# Altium integrated library Microchip DSC 16-Bit dsPIC33F.IntLib: 595 symbols (part 6 of 31)
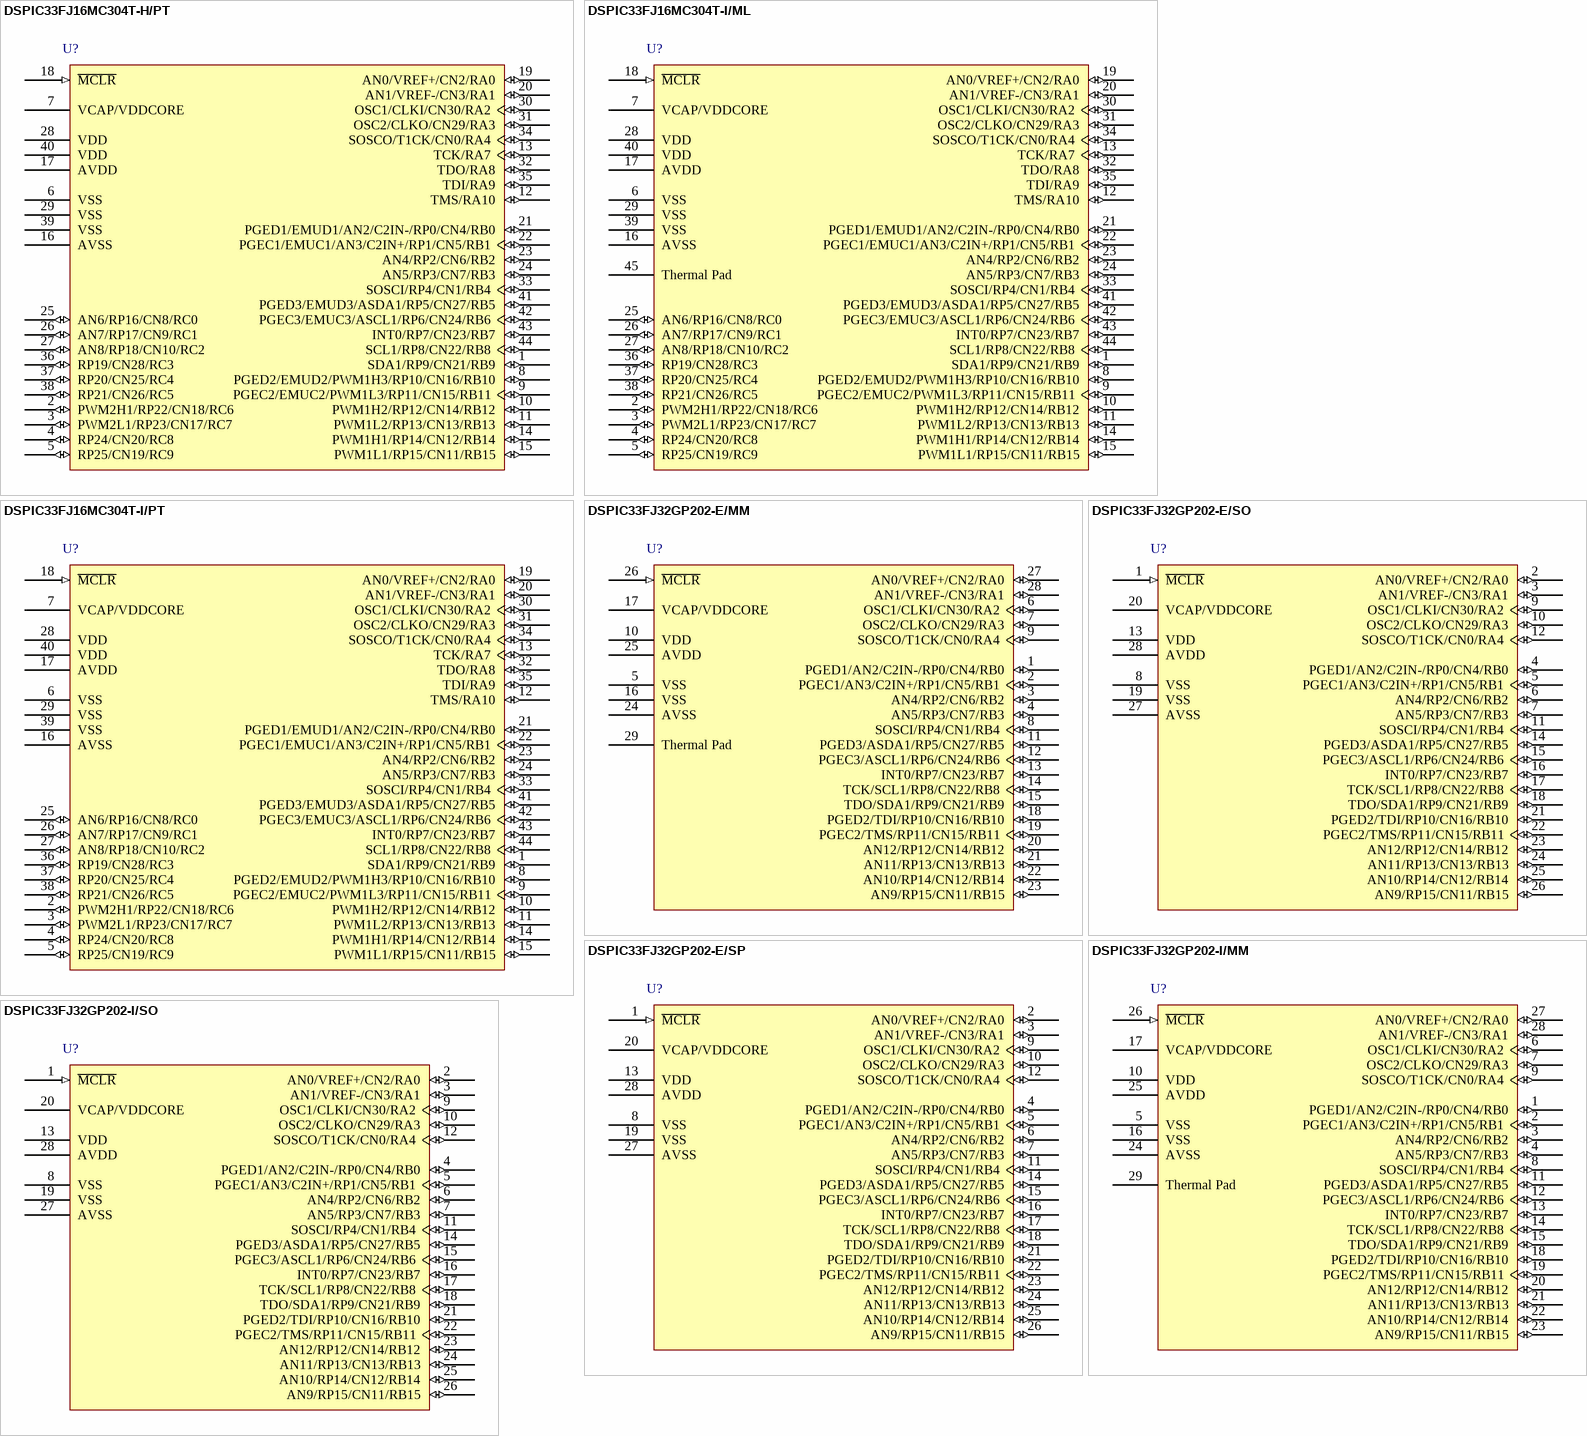
[diagram p123: symbols DSPIC33FJ16MC304T-H/PT to DSPIC33FJ32GP202-I/SO]

## DSPIC33FJ16MC304T-I/PT
designator U?
High-Performance 16-bit Digital Signal Controller, 16 KB Flash, 2 KB RAM, 44-Pin TQFP, Industrial Temperature, Tape and Reel; FirstPublished: 29-Jan-2009; LatestRevisionDate: 02-Dec-2009; LatestRevisionNote: Updated to datasheet revision F, Nov-2009; DatasheetVersion: revF, Nov-2009; PackageVersion: revBB, Aug-2009; PackageReference: TQFP-PT44; Publisher: Altium Limited; PackageDescription: 44-Lead Plastic Thin Quad Flatpack (PT) - 10x10x1mm Body, 2.00mm [TQFP]; Supplier 1: Digi-Key; Supplier Part Number 1: DSPIC33FJ16MC304T-I/PTTR-ND; Supplier 2: Newark; Supplier Part Number 2: 39M8160; Code_JEDEC: MS-026; ComponentLink1Description: Datasheet; ComponentLink1URL: http://ww1.microchip.com/downloads/en/DeviceDoc/70283F.pdf; ComponentLink2Description: Packaging Specification; ComponentLink2URL: http://www.microchip.com/stellent/groups/techpub_sg/documents/packagingspec/en012702.pdf; ComponentLink3Description: Microchip.com Home; ComponentLink3URL: http://www.microchip.com/
footprint TQFP-PT44_N (Thin QFP, 44-Leads, Body 10x10mm, Pitch 0.8mm, IPC Medium Density)
footprint TQFP-PT44_L (Thin QFP, 44-Leads, Body 10x10mm, Pitch 0.8mm, IPC High Density)
footprint TQFP-PT44_M (Thin QFP, 44-Leads, Body 10x10mm, Pitch 0.8mm, IPC Low Density)
pins: 1 SDA1/RP9/CN21/RB9 (io), 2 PWM2H1/RP22/CN18/RC6 (io), 3 PWM2L1/RP23/CN17/RC7 (io), 4 RP24/CN20/RC8 (io), 5 RP25/CN19/RC9 (io), 6 VSS (power), 7 VCAP/VDDCORE (power), 8 PGED2/EMUD2/PWM1H3/RP10/CN16/RB10 (io), 9 PGEC2/EMUC2/PWM1L3/RP11/CN15/RB11 (io), 10 PWM1H2/RP12/CN14/RB12 (io), 11 PWM1L2/RP13/CN13/RB13 (io), 12 TMS/RA10 (io), 13 TCK/RA7 (io), 14 PWM1H1/RP14/CN12/RB14 (io), 15 PWM1L1/RP15/CN11/RB15 (io), 16 AVSS (power), 17 AVDD (power), 18 ~{MCLR} (in), 19 AN0/VREF+/CN2/RA0 (io), 20 AN1/VREF-/CN3/RA1 (io), 21 PGED1/EMUD1/AN2/C2IN-/RP0/CN4/RB0 (io), 22 PGEC1/EMUC1/AN3/C2IN+/RP1/CN5/RB1 (io), 23 AN4/RP2/CN6/RB2 (io), 24 AN5/RP3/CN7/RB3 (io), 25 AN6/RP16/CN8/RC0 (io), 26 AN7/RP17/CN9/RC1 (io), 27 AN8/RP18/CN10/RC2 (io), 28 VDD (power), 29 VSS (power), 30 OSC1/CLKI/CN30/RA2 (io), 31 OSC2/CLKO/CN29/RA3 (io), 32 TDO/RA8 (io), 33 SOSCI/RP4/CN1/RB4 (io), 34 SOSCO/T1CK/CN0/RA4 (io), 35 TDI/RA9 (io), 36 RP19/CN28/RC3 (io), 37 RP20/CN25/RC4 (io), 38 RP21/CN26/RC5 (io), 39 VSS (power), 40 VDD (power), 41 PGED3/EMUD3/ASDA1/RP5/CN27/RB5 (io), 42 PGEC3/EMUC3/ASCL1/RP6/CN24/RB6 (io), 43 INT0/RP7/CN23/RB7 (io), 44 SCL1/RP8/CN22/RB8 (io)

## DSPIC33FJ32GP202-E/MM
designator U?
High-Performance 16-bit Digital Signal Controller, 32 KB Flash, 2 KB RAM, 28-Pin QFN, Extended High Temperature; FirstPublished: 29-Jan-2009; LatestRevisionDate: 02-Dec-2009; LatestRevisionNote: Updated to datasheet revision F, Nov-2009; DatasheetVersion: revF, Nov-2009; PackageVersion: revBB, Aug-2009; PackageReference: QFNS-MM28; Publisher: Altium Limited; PackageDescription: 28-Lead Plastic Quad Flat, No Lead Package (MM) - 6x6x0.9 mm Body [QFN-S] with 0.40 mm Contact Length; Supplier 1: Digi-Key; Supplier Part Number 1: DSPIC33FJ32GP202-E/MM-ND; Supplier 2: Newark; Supplier Part Number 2: 39M8161; ComponentLink1Description: Datasheet; ComponentLink1URL: http://ww1.microchip.com/downloads/en/DeviceDoc/70290F.pdf; ComponentLink2Description: Packaging Specification; ComponentLink2URL: http://www.microchip.com/stellent/groups/techpub_sg/documents/packagingspec/en012702.pdf; ComponentLink3Description: Microchip.com Home; ComponentLink3URL: http://www.microchip.com/
footprint QFNS-MM28_N (QFN, 28-Leads, Body 6x6 mm, Pitch 0.65mm, IPC Medium Density)
footprint QFNS-MM28_L (QFN, 28-Leads, Body 6x6 mm, Pitch 0.65mm, IPC High Density)
footprint QFNS-MM28_M (QFN, 28-Leads, Body 6x6 mm, Pitch 0.65mm, IPC Low Density)
pins: 1 PGED1/AN2/C2IN-/RP0/CN4/RB0 (io), 2 PGEC1/AN3/C2IN+/RP1/CN5/RB1 (io), 3 AN4/RP2/CN6/RB2 (io), 4 AN5/RP3/CN7/RB3 (io), 5 VSS (power), 6 OSC1/CLKI/CN30/RA2 (io), 7 OSC2/CLKO/CN29/RA3 (io), 8 SOSCI/RP4/CN1/RB4 (io), 9 SOSCO/T1CK/CN0/RA4 (io), 10 VDD (power), 11 PGED3/ASDA1/RP5/CN27/RB5 (io), 12 PGEC3/ASCL1/RP6/CN24/RB6 (io), 13 INT0/RP7/CN23/RB7 (io), 14 TCK/SCL1/RP8/CN22/RB8 (io), 15 TDO/SDA1/RP9/CN21/RB9 (io), 16 VSS (power), 17 VCAP/VDDCORE (power), 18 PGED2/TDI/RP10/CN16/RB10 (io), 19 PGEC2/TMS/RP11/CN15/RB11 (io), 20 AN12/RP12/CN14/RB12 (io), 21 AN11/RP13/CN13/RB13 (io), 22 AN10/RP14/CN12/RB14 (io), 23 AN9/RP15/CN11/RB15 (io), 24 AVSS (power), 25 AVDD (power), 26 ~{MCLR} (in), 27 AN0/VREF+/CN2/RA0 (io), 28 AN1/VREF-/CN3/RA1 (io), 29 Thermal Pad

## DSPIC33FJ32GP202-E/SO
designator U?
High-Performance 16-bit Digital Signal Controller, 32 KB Flash, 2 KB RAM, 28-Pin SOIC, Extended High Temperature; FirstPublished: 29-Jan-2009; LatestRevisionDate: 02-Dec-2009; LatestRevisionNote: Updated to datasheet revision F, Nov-2009; DatasheetVersion: revF, Nov-2009; PackageVersion: revBB, Aug-2009; PackageReference: SOIC-SO28; Publisher: Altium Limited; PackageDescription: 28-Lead Plastic Small Outline (SO) - Wide 7.50mm Body [SOIC]; Supplier 1: Digi-Key; Supplier Part Number 1: DSPIC33FJ32GP202-E/SO-ND; Supplier 2: Newark; Supplier Part Number 2: 39M8162; Code_JEDEC: MS-013; ComponentLink1Description: Datasheet; ComponentLink1URL: http://ww1.microchip.com/downloads/en/DeviceDoc/70290F.pdf; ComponentLink2Description: Packaging Specification; ComponentLink2URL: http://www.microchip.com/stellent/groups/techpub_sg/documents/packagingspec/en012702.pdf; ComponentLink3Description: Microchip.com Home; ComponentLink3URL: http://www.microchip.com/
footprint SOIC-SO28_N (SOIC, 28-Leads, Body 17.9x7.5mm, Pitch 1.27mm, IPC Medium Density)
footprint SOIC-SO28_L (SOIC, 28-Leads, Body 17.9x7.5mm, Pitch 1.27mm, IPC High Density)
footprint SOIC-SO28_M (SOIC, 28-Leads, Body 17.9x7.5mm, Pitch 1.27mm, IPC Low Density)
pins: 1 ~{MCLR} (in), 2 AN0/VREF+/CN2/RA0 (io), 3 AN1/VREF-/CN3/RA1 (io), 4 PGED1/AN2/C2IN-/RP0/CN4/RB0 (io), 5 PGEC1/AN3/C2IN+/RP1/CN5/RB1 (io), 6 AN4/RP2/CN6/RB2 (io), 7 AN5/RP3/CN7/RB3 (io), 8 VSS (power), 9 OSC1/CLKI/CN30/RA2 (io), 10 OSC2/CLKO/CN29/RA3 (io), 11 SOSCI/RP4/CN1/RB4 (io), 12 SOSCO/T1CK/CN0/RA4 (io), 13 VDD (power), 14 PGED3/ASDA1/RP5/CN27/RB5 (io), 15 PGEC3/ASCL1/RP6/CN24/RB6 (io), 16 INT0/RP7/CN23/RB7 (io), 17 TCK/SCL1/RP8/CN22/RB8 (io), 18 TDO/SDA1/RP9/CN21/RB9 (io), 19 VSS (power), 20 VCAP/VDDCORE (power), 21 PGED2/TDI/RP10/CN16/RB10 (io), 22 PGEC2/TMS/RP11/CN15/RB11 (io), 23 AN12/RP12/CN14/RB12 (io), 24 AN11/RP13/CN13/RB13 (io), 25 AN10/RP14/CN12/RB14 (io), 26 AN9/RP15/CN11/RB15 (io), 27 AVSS (power), 28 AVDD (power)

## DSPIC33FJ32GP202-E/SP
designator U?
High-Performance 16-bit Digital Signal Controller, 32 KB Flash, 2 KB RAM, 28-Pin SPDIP, Extended High Temperature; FirstPublished: 29-Jan-2009; LatestRevisionDate: 02-Dec-2009; LatestRevisionNote: Updated to datasheet revision F, Nov-2009; DatasheetVersion: revF, Nov-2009; PackageVersion: revBB, Aug-2009; PackageReference: SPDIP300-SP28; Publisher: Altium Limited; PackageDescription: 28-Lead Skinny Plastic Dual In-Line (SP) - 300 mil Body [SPDIP]; Supplier 1: Digi-Key; Supplier Part Number 1: DSPIC33FJ32GP202-E/SP-ND; Supplier 2: Newark; Supplier Part Number 2: 39M8163; ComponentLink1Description: Datasheet; ComponentLink1URL: http://ww1.microchip.com/downloads/en/DeviceDoc/70290F.pdf; ComponentLink2Description: Packaging Specification; ComponentLink2URL: http://www.microchip.com/stellent/groups/techpub_sg/documents/packagingspec/en012702.pdf; ComponentLink3Description: Microchip.com Home; ComponentLink3URL: http://www.microchip.com/
footprint SPDIP300-SP28 (DIP, 28-Leads, Row Spacing 7.62mm, Pitch 2.54mm, Body 34.9x6.8mm)
pins: 1 ~{MCLR} (in), 2 AN0/VREF+/CN2/RA0 (io), 3 AN1/VREF-/CN3/RA1 (io), 4 PGED1/AN2/C2IN-/RP0/CN4/RB0 (io), 5 PGEC1/AN3/C2IN+/RP1/CN5/RB1 (io), 6 AN4/RP2/CN6/RB2 (io), 7 AN5/RP3/CN7/RB3 (io), 8 VSS (power), 9 OSC1/CLKI/CN30/RA2 (io), 10 OSC2/CLKO/CN29/RA3 (io), 11 SOSCI/RP4/CN1/RB4 (io), 12 SOSCO/T1CK/CN0/RA4 (io), 13 VDD (power), 14 PGED3/ASDA1/RP5/CN27/RB5 (io), 15 PGEC3/ASCL1/RP6/CN24/RB6 (io), 16 INT0/RP7/CN23/RB7 (io), 17 TCK/SCL1/RP8/CN22/RB8 (io), 18 TDO/SDA1/RP9/CN21/RB9 (io), 19 VSS (power), 20 VCAP/VDDCORE (power), 21 PGED2/TDI/RP10/CN16/RB10 (io), 22 PGEC2/TMS/RP11/CN15/RB11 (io), 23 AN12/RP12/CN14/RB12 (io), 24 AN11/RP13/CN13/RB13 (io), 25 AN10/RP14/CN12/RB14 (io), 26 AN9/RP15/CN11/RB15 (io), 27 AVSS (power), 28 AVDD (power)

## DSPIC33FJ32GP202-I/MM
designator U?
High-Performance 16-bit Digital Signal Controller, 32 KB Flash, 2 KB RAM, 28-Pin QFN, Industrial Temperature; FirstPublished: 29-Jan-2009; LatestRevisionDate: 02-Dec-2009; LatestRevisionNote: Updated to datasheet revision F, Nov-2009; DatasheetVersion: revF, Nov-2009; PackageVersion: revBB, Aug-2009; PackageReference: QFNS-MM28; Publisher: Altium Limited; PackageDescription: 28-Lead Plastic Quad Flat, No Lead Package (MM) - 6x6x0.9 mm Body [QFN-S] with 0.40 mm Contact Length; Supplier 1: Digi-Key; Supplier Part Number 1: DSPIC33FJ32GP202-I/MM-ND; Supplier 2: Farnell; Supplier Part Number 2: 1576911; Supplier 3: Newark; Supplier Part Number 3: 39M8164; ComponentLink1Description: Datasheet; ComponentLink1URL: http://ww1.microchip.com/downloads/en/DeviceDoc/70290F.pdf; ComponentLink2Description: Packaging Specification; ComponentLink2URL: http://www.microchip.com/stellent/groups/techpub_sg/documents/packagingspec/en012702.pdf; ComponentLink3Description: Microchip.com Home; ComponentLink3URL: http://www.microchip.com/
footprint QFNS-MM28_N (QFN, 28-Leads, Body 6x6 mm, Pitch 0.65mm, IPC Medium Density)
footprint QFNS-MM28_L (QFN, 28-Leads, Body 6x6 mm, Pitch 0.65mm, IPC High Density)
footprint QFNS-MM28_M (QFN, 28-Leads, Body 6x6 mm, Pitch 0.65mm, IPC Low Density)
pins: 1 PGED1/AN2/C2IN-/RP0/CN4/RB0 (io), 2 PGEC1/AN3/C2IN+/RP1/CN5/RB1 (io), 3 AN4/RP2/CN6/RB2 (io), 4 AN5/RP3/CN7/RB3 (io), 5 VSS (power), 6 OSC1/CLKI/CN30/RA2 (io), 7 OSC2/CLKO/CN29/RA3 (io), 8 SOSCI/RP4/CN1/RB4 (io), 9 SOSCO/T1CK/CN0/RA4 (io), 10 VDD (power), 11 PGED3/ASDA1/RP5/CN27/RB5 (io), 12 PGEC3/ASCL1/RP6/CN24/RB6 (io), 13 INT0/RP7/CN23/RB7 (io), 14 TCK/SCL1/RP8/CN22/RB8 (io), 15 TDO/SDA1/RP9/CN21/RB9 (io), 16 VSS (power), 17 VCAP/VDDCORE (power), 18 PGED2/TDI/RP10/CN16/RB10 (io), 19 PGEC2/TMS/RP11/CN15/RB11 (io), 20 AN12/RP12/CN14/RB12 (io), 21 AN11/RP13/CN13/RB13 (io), 22 AN10/RP14/CN12/RB14 (io), 23 AN9/RP15/CN11/RB15 (io), 24 AVSS (power), 25 AVDD (power), 26 ~{MCLR} (in), 27 AN0/VREF+/CN2/RA0 (io), 28 AN1/VREF-/CN3/RA1 (io), 29 Thermal Pad

## DSPIC33FJ32GP202-I/SO
designator U?
High-Performance 16-bit Digital Signal Controller, 32 KB Flash, 2 KB RAM, 28-Pin SOIC, Industrial Temperature; FirstPublished: 29-Jan-2009; LatestRevisionDate: 02-Dec-2009; LatestRevisionNote: Updated to datasheet revision F, Nov-2009; DatasheetVersion: revF, Nov-2009; PackageVersion: revBB, Aug-2009; PackageReference: SOIC-SO28; Publisher: Altium Limited; PackageDescription: 28-Lead Plastic Small Outline (SO) - Wide 7.50mm Body [SOIC]; Supplier 1: Digi-Key; Supplier Part Number 1: DSPIC33FJ32GP202-I/SO-ND; Supplier 2: Farnell; Supplier Part Number 2: 1576912; Supplier 3: Newark; Supplier Part Number 3: 39M8165; Code_JEDEC: MS-013; ComponentLink1Description: Datasheet; ComponentLink1URL: http://ww1.microchip.com/downloads/en/DeviceDoc/70290F.pdf; ComponentLink2Description: Packaging Specification; ComponentLink2URL: http://www.microchip.com/stellent/groups/techpub_sg/documents/packagingspec/en012702.pdf; ComponentLink3Description: Microchip.com Home; ComponentLink3URL: http://www.microchip.com/
footprint SOIC-SO28_N (SOIC, 28-Leads, Body 17.9x7.5mm, Pitch 1.27mm, IPC Medium Density)
footprint SOIC-SO28_L (SOIC, 28-Leads, Body 17.9x7.5mm, Pitch 1.27mm, IPC High Density)
footprint SOIC-SO28_M (SOIC, 28-Leads, Body 17.9x7.5mm, Pitch 1.27mm, IPC Low Density)
pins: 1 ~{MCLR} (in), 2 AN0/VREF+/CN2/RA0 (io), 3 AN1/VREF-/CN3/RA1 (io), 4 PGED1/AN2/C2IN-/RP0/CN4/RB0 (io), 5 PGEC1/AN3/C2IN+/RP1/CN5/RB1 (io), 6 AN4/RP2/CN6/RB2 (io), 7 AN5/RP3/CN7/RB3 (io), 8 VSS (power), 9 OSC1/CLKI/CN30/RA2 (io), 10 OSC2/CLKO/CN29/RA3 (io), 11 SOSCI/RP4/CN1/RB4 (io), 12 SOSCO/T1CK/CN0/RA4 (io), 13 VDD (power), 14 PGED3/ASDA1/RP5/CN27/RB5 (io), 15 PGEC3/ASCL1/RP6/CN24/RB6 (io), 16 INT0/RP7/CN23/RB7 (io), 17 TCK/SCL1/RP8/CN22/RB8 (io), 18 TDO/SDA1/RP9/CN21/RB9 (io), 19 VSS (power), 20 VCAP/VDDCORE (power), 21 PGED2/TDI/RP10/CN16/RB10 (io), 22 PGEC2/TMS/RP11/CN15/RB11 (io), 23 AN12/RP12/CN14/RB12 (io), 24 AN11/RP13/CN13/RB13 (io), 25 AN10/RP14/CN12/RB14 (io), 26 AN9/RP15/CN11/RB15 (io), 27 AVSS (power), 28 AVDD (power)

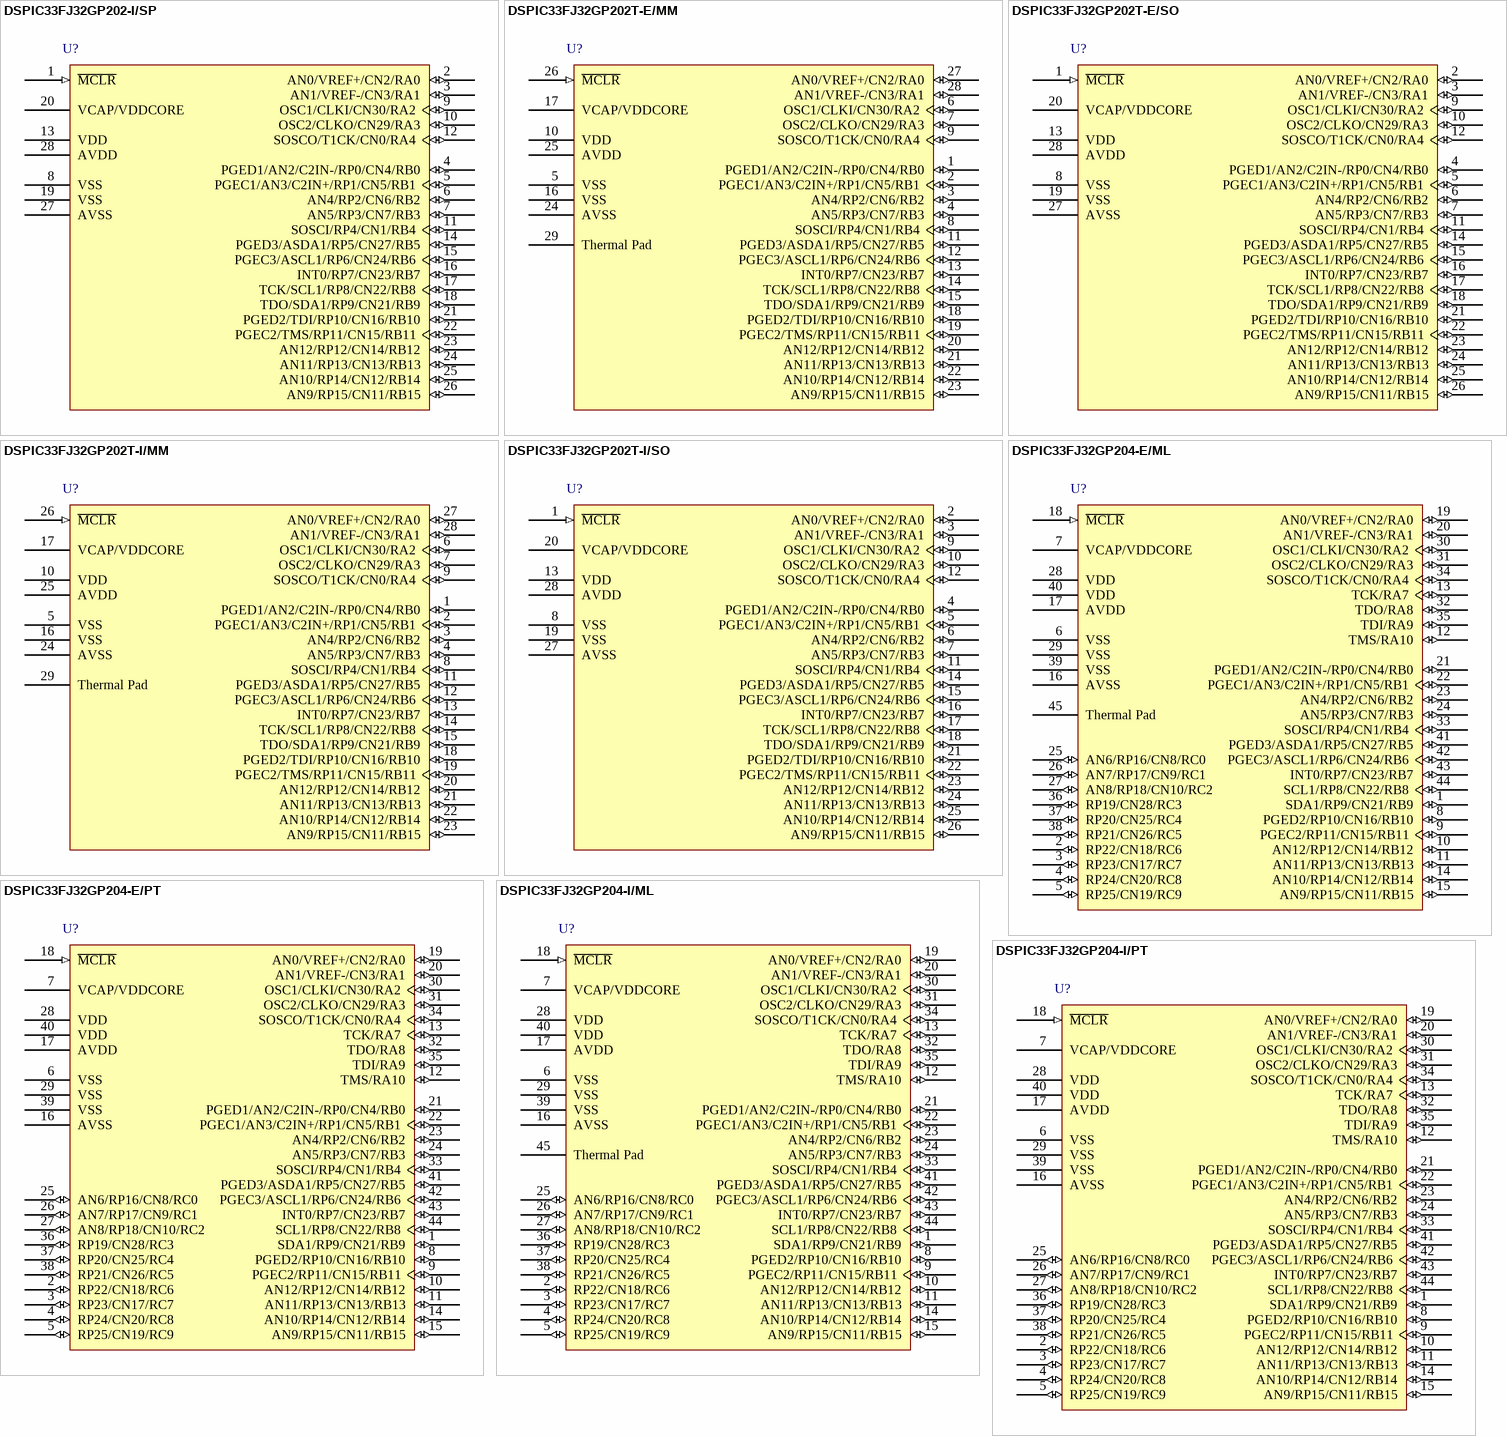
[diagram p15: symbols DSPIC33FJ32GP202-I/SP to DSPIC33FJ32GP204-I/PT]

## DSPIC33FJ32GP202-I/SP
designator U?
High-Performance 16-bit Digital Signal Controller, 32 KB Flash, 2 KB RAM, 28-Pin SPDIP, Industrial Temperature; FirstPublished: 29-Jan-2009; LatestRevisionDate: 02-Dec-2009; LatestRevisionNote: Updated to datasheet revision F, Nov-2009; DatasheetVersion: revF, Nov-2009; PackageVersion: revBB, Aug-2009; PackageReference: SPDIP300-SP28; Publisher: Altium Limited; PackageDescription: 28-Lead Skinny Plastic Dual In-Line (SP) - 300 mil Body [SPDIP]; Supplier 1: Digi-Key; Supplier Part Number 1: DSPIC33FJ32GP202-I/SP-ND; Supplier 2: Farnell; Supplier Part Number 2: 1576913; Supplier 3: Newark; Supplier Part Number 3: 39M8166; ComponentLink1Description: Datasheet; ComponentLink1URL: http://ww1.microchip.com/downloads/en/DeviceDoc/70290F.pdf; ComponentLink2Description: Packaging Specification; ComponentLink2URL: http://www.microchip.com/stellent/groups/techpub_sg/documents/packagingspec/en012702.pdf; ComponentLink3Description: Microchip.com Home; ComponentLink3URL: http://www.microchip.com/
footprint SPDIP300-SP28 (DIP, 28-Leads, Row Spacing 7.62mm, Pitch 2.54mm, Body 34.9x6.8mm)
pins: 1 ~{MCLR} (in), 2 AN0/VREF+/CN2/RA0 (io), 3 AN1/VREF-/CN3/RA1 (io), 4 PGED1/AN2/C2IN-/RP0/CN4/RB0 (io), 5 PGEC1/AN3/C2IN+/RP1/CN5/RB1 (io), 6 AN4/RP2/CN6/RB2 (io), 7 AN5/RP3/CN7/RB3 (io), 8 VSS (power), 9 OSC1/CLKI/CN30/RA2 (io), 10 OSC2/CLKO/CN29/RA3 (io), 11 SOSCI/RP4/CN1/RB4 (io), 12 SOSCO/T1CK/CN0/RA4 (io), 13 VDD (power), 14 PGED3/ASDA1/RP5/CN27/RB5 (io), 15 PGEC3/ASCL1/RP6/CN24/RB6 (io), 16 INT0/RP7/CN23/RB7 (io), 17 TCK/SCL1/RP8/CN22/RB8 (io), 18 TDO/SDA1/RP9/CN21/RB9 (io), 19 VSS (power), 20 VCAP/VDDCORE (power), 21 PGED2/TDI/RP10/CN16/RB10 (io), 22 PGEC2/TMS/RP11/CN15/RB11 (io), 23 AN12/RP12/CN14/RB12 (io), 24 AN11/RP13/CN13/RB13 (io), 25 AN10/RP14/CN12/RB14 (io), 26 AN9/RP15/CN11/RB15 (io), 27 AVSS (power), 28 AVDD (power)

## DSPIC33FJ32GP202T-E/MM
designator U?
High-Performance 16-bit Digital Signal Controller, 32 KB Flash, 2 KB RAM, 28-Pin QFN, Extended High Temperature, Tape and Reel; FirstPublished: 29-Jan-2009; LatestRevisionDate: 02-Dec-2009; LatestRevisionNote: Updated to datasheet revision F, Nov-2009; DatasheetVersion: revF, Nov-2009; PackageVersion: revBB, Aug-2009; PackageReference: QFNS-MM28; Publisher: Altium Limited; PackageDescription: 28-Lead Plastic Quad Flat, No Lead Package (MM) - 6x6x0.9 mm Body [QFN-S] with 0.40 mm Contact Length; ComponentLink1Description: Datasheet; ComponentLink1URL: http://ww1.microchip.com/downloads/en/DeviceDoc/70290F.pdf; ComponentLink2Description: Packaging Specification; ComponentLink2URL: http://www.microchip.com/stellent/groups/techpub_sg/documents/packagingspec/en012702.pdf; ComponentLink3Description: Microchip.com Home; ComponentLink3URL: http://www.microchip.com/
footprint QFNS-MM28_N (QFN, 28-Leads, Body 6x6 mm, Pitch 0.65mm, IPC Medium Density)
footprint QFNS-MM28_L (QFN, 28-Leads, Body 6x6 mm, Pitch 0.65mm, IPC High Density)
footprint QFNS-MM28_M (QFN, 28-Leads, Body 6x6 mm, Pitch 0.65mm, IPC Low Density)
pins: 1 PGED1/AN2/C2IN-/RP0/CN4/RB0 (io), 2 PGEC1/AN3/C2IN+/RP1/CN5/RB1 (io), 3 AN4/RP2/CN6/RB2 (io), 4 AN5/RP3/CN7/RB3 (io), 5 VSS (power), 6 OSC1/CLKI/CN30/RA2 (io), 7 OSC2/CLKO/CN29/RA3 (io), 8 SOSCI/RP4/CN1/RB4 (io), 9 SOSCO/T1CK/CN0/RA4 (io), 10 VDD (power), 11 PGED3/ASDA1/RP5/CN27/RB5 (io), 12 PGEC3/ASCL1/RP6/CN24/RB6 (io), 13 INT0/RP7/CN23/RB7 (io), 14 TCK/SCL1/RP8/CN22/RB8 (io), 15 TDO/SDA1/RP9/CN21/RB9 (io), 16 VSS (power), 17 VCAP/VDDCORE (power), 18 PGED2/TDI/RP10/CN16/RB10 (io), 19 PGEC2/TMS/RP11/CN15/RB11 (io), 20 AN12/RP12/CN14/RB12 (io), 21 AN11/RP13/CN13/RB13 (io), 22 AN10/RP14/CN12/RB14 (io), 23 AN9/RP15/CN11/RB15 (io), 24 AVSS (power), 25 AVDD (power), 26 ~{MCLR} (in), 27 AN0/VREF+/CN2/RA0 (io), 28 AN1/VREF-/CN3/RA1 (io), 29 Thermal Pad

## DSPIC33FJ32GP202T-E/SO
designator U?
High-Performance 16-bit Digital Signal Controller, 32 KB Flash, 2 KB RAM, 28-Pin SOIC, Extended High Temperature, Tape and Reel; FirstPublished: 29-Jan-2009; LatestRevisionDate: 02-Dec-2009; LatestRevisionNote: Updated to datasheet revision F, Nov-2009; DatasheetVersion: revF, Nov-2009; PackageVersion: revBB, Aug-2009; PackageReference: SOIC-SO28; Publisher: Altium Limited; PackageDescription: 28-Lead Plastic Small Outline (SO) - Wide 7.50mm Body [SOIC]; Code_JEDEC: MS-013; ComponentLink1Description: Datasheet; ComponentLink1URL: http://ww1.microchip.com/downloads/en/DeviceDoc/70290F.pdf; ComponentLink2Description: Packaging Specification; ComponentLink2URL: http://www.microchip.com/stellent/groups/techpub_sg/documents/packagingspec/en012702.pdf; ComponentLink3Description: Microchip.com Home; ComponentLink3URL: http://www.microchip.com/
footprint SOIC-SO28_N (SOIC, 28-Leads, Body 17.9x7.5mm, Pitch 1.27mm, IPC Medium Density)
footprint SOIC-SO28_L (SOIC, 28-Leads, Body 17.9x7.5mm, Pitch 1.27mm, IPC High Density)
footprint SOIC-SO28_M (SOIC, 28-Leads, Body 17.9x7.5mm, Pitch 1.27mm, IPC Low Density)
pins: 1 ~{MCLR} (in), 2 AN0/VREF+/CN2/RA0 (io), 3 AN1/VREF-/CN3/RA1 (io), 4 PGED1/AN2/C2IN-/RP0/CN4/RB0 (io), 5 PGEC1/AN3/C2IN+/RP1/CN5/RB1 (io), 6 AN4/RP2/CN6/RB2 (io), 7 AN5/RP3/CN7/RB3 (io), 8 VSS (power), 9 OSC1/CLKI/CN30/RA2 (io), 10 OSC2/CLKO/CN29/RA3 (io), 11 SOSCI/RP4/CN1/RB4 (io), 12 SOSCO/T1CK/CN0/RA4 (io), 13 VDD (power), 14 PGED3/ASDA1/RP5/CN27/RB5 (io), 15 PGEC3/ASCL1/RP6/CN24/RB6 (io), 16 INT0/RP7/CN23/RB7 (io), 17 TCK/SCL1/RP8/CN22/RB8 (io), 18 TDO/SDA1/RP9/CN21/RB9 (io), 19 VSS (power), 20 VCAP/VDDCORE (power), 21 PGED2/TDI/RP10/CN16/RB10 (io), 22 PGEC2/TMS/RP11/CN15/RB11 (io), 23 AN12/RP12/CN14/RB12 (io), 24 AN11/RP13/CN13/RB13 (io), 25 AN10/RP14/CN12/RB14 (io), 26 AN9/RP15/CN11/RB15 (io), 27 AVSS (power), 28 AVDD (power)

## DSPIC33FJ32GP202T-I/MM
designator U?
High-Performance 16-bit Digital Signal Controller, 32 KB Flash, 2 KB RAM, 28-Pin QFN, Industrial Temperature, Tape and Reel; FirstPublished: 29-Jan-2009; LatestRevisionDate: 02-Dec-2009; LatestRevisionNote: Updated to datasheet revision F, Nov-2009; DatasheetVersion: revF, Nov-2009; PackageVersion: revBB, Aug-2009; PackageReference: QFNS-MM28; Publisher: Altium Limited; PackageDescription: 28-Lead Plastic Quad Flat, No Lead Package (MM) - 6x6x0.9 mm Body [QFN-S] with 0.40 mm Contact Length; Supplier 1: Digi-Key; Supplier Part Number 1: DSPIC33FJ32GP202T-I/MMTR-ND; Supplier 2: Newark; Supplier Part Number 2: 39M8167; ComponentLink1Description: Datasheet; ComponentLink1URL: http://ww1.microchip.com/downloads/en/DeviceDoc/70290F.pdf; ComponentLink2Description: Packaging Specification; ComponentLink2URL: http://www.microchip.com/stellent/groups/techpub_sg/documents/packagingspec/en012702.pdf; ComponentLink3Description: Microchip.com Home; ComponentLink3URL: http://www.microchip.com/
footprint QFNS-MM28_N (QFN, 28-Leads, Body 6x6 mm, Pitch 0.65mm, IPC Medium Density)
footprint QFNS-MM28_L (QFN, 28-Leads, Body 6x6 mm, Pitch 0.65mm, IPC High Density)
footprint QFNS-MM28_M (QFN, 28-Leads, Body 6x6 mm, Pitch 0.65mm, IPC Low Density)
pins: 1 PGED1/AN2/C2IN-/RP0/CN4/RB0 (io), 2 PGEC1/AN3/C2IN+/RP1/CN5/RB1 (io), 3 AN4/RP2/CN6/RB2 (io), 4 AN5/RP3/CN7/RB3 (io), 5 VSS (power), 6 OSC1/CLKI/CN30/RA2 (io), 7 OSC2/CLKO/CN29/RA3 (io), 8 SOSCI/RP4/CN1/RB4 (io), 9 SOSCO/T1CK/CN0/RA4 (io), 10 VDD (power), 11 PGED3/ASDA1/RP5/CN27/RB5 (io), 12 PGEC3/ASCL1/RP6/CN24/RB6 (io), 13 INT0/RP7/CN23/RB7 (io), 14 TCK/SCL1/RP8/CN22/RB8 (io), 15 TDO/SDA1/RP9/CN21/RB9 (io), 16 VSS (power), 17 VCAP/VDDCORE (power), 18 PGED2/TDI/RP10/CN16/RB10 (io), 19 PGEC2/TMS/RP11/CN15/RB11 (io), 20 AN12/RP12/CN14/RB12 (io), 21 AN11/RP13/CN13/RB13 (io), 22 AN10/RP14/CN12/RB14 (io), 23 AN9/RP15/CN11/RB15 (io), 24 AVSS (power), 25 AVDD (power), 26 ~{MCLR} (in), 27 AN0/VREF+/CN2/RA0 (io), 28 AN1/VREF-/CN3/RA1 (io), 29 Thermal Pad

## DSPIC33FJ32GP202T-I/SO
designator U?
High-Performance 16-bit Digital Signal Controller, 32 KB Flash, 2 KB RAM, 28-Pin SOIC, Industrial Temperature, Tape and Reel; FirstPublished: 29-Jan-2009; LatestRevisionDate: 02-Dec-2009; LatestRevisionNote: Updated to datasheet revision F, Nov-2009; DatasheetVersion: revF, Nov-2009; PackageVersion: revBB, Aug-2009; PackageReference: SOIC-SO28; Publisher: Altium Limited; PackageDescription: 28-Lead Plastic Small Outline (SO) - Wide 7.50mm Body [SOIC]; Supplier 1: Digi-Key; Supplier Part Number 1: DSPIC33FJ32GP202T-I/SOTR-ND; Supplier 2: Newark; Supplier Part Number 2: 39M8168; Code_JEDEC: MS-013; ComponentLink1Description: Datasheet; ComponentLink1URL: http://ww1.microchip.com/downloads/en/DeviceDoc/70290F.pdf; ComponentLink2Description: Packaging Specification; ComponentLink2URL: http://www.microchip.com/stellent/groups/techpub_sg/documents/packagingspec/en012702.pdf; ComponentLink3Description: Microchip.com Home; ComponentLink3URL: http://www.microchip.com/
footprint SOIC-SO28_N (SOIC, 28-Leads, Body 17.9x7.5mm, Pitch 1.27mm, IPC Medium Density)
footprint SOIC-SO28_L (SOIC, 28-Leads, Body 17.9x7.5mm, Pitch 1.27mm, IPC High Density)
footprint SOIC-SO28_M (SOIC, 28-Leads, Body 17.9x7.5mm, Pitch 1.27mm, IPC Low Density)
pins: 1 ~{MCLR} (in), 2 AN0/VREF+/CN2/RA0 (io), 3 AN1/VREF-/CN3/RA1 (io), 4 PGED1/AN2/C2IN-/RP0/CN4/RB0 (io), 5 PGEC1/AN3/C2IN+/RP1/CN5/RB1 (io), 6 AN4/RP2/CN6/RB2 (io), 7 AN5/RP3/CN7/RB3 (io), 8 VSS (power), 9 OSC1/CLKI/CN30/RA2 (io), 10 OSC2/CLKO/CN29/RA3 (io), 11 SOSCI/RP4/CN1/RB4 (io), 12 SOSCO/T1CK/CN0/RA4 (io), 13 VDD (power), 14 PGED3/ASDA1/RP5/CN27/RB5 (io), 15 PGEC3/ASCL1/RP6/CN24/RB6 (io), 16 INT0/RP7/CN23/RB7 (io), 17 TCK/SCL1/RP8/CN22/RB8 (io), 18 TDO/SDA1/RP9/CN21/RB9 (io), 19 VSS (power), 20 VCAP/VDDCORE (power), 21 PGED2/TDI/RP10/CN16/RB10 (io), 22 PGEC2/TMS/RP11/CN15/RB11 (io), 23 AN12/RP12/CN14/RB12 (io), 24 AN11/RP13/CN13/RB13 (io), 25 AN10/RP14/CN12/RB14 (io), 26 AN9/RP15/CN11/RB15 (io), 27 AVSS (power), 28 AVDD (power)

## DSPIC33FJ32GP204-E/ML
designator U?
High-Performance 16-bit Digital Signal Controller, 32 KB Flash, 2 KB RAM, 44-Pin QFN, Extended High Temperature; FirstPublished: 29-Jan-2009; LatestRevisionDate: 02-Dec-2009; LatestRevisionNote: Updated to datasheet revision F, Nov-2009; DatasheetVersion: revF, Nov-2009; PackageVersion: revBB, Aug-2009; PackageReference: QFN-ML44; Publisher: Altium Limited; PackageDescription: 44-Lead Plastic Quad Flat, No Lead Package (ML) - 8x8 mm Body [QFN]; Supplier 1: Digi-Key; Supplier Part Number 1: DSPIC33FJ32GP204-E/ML-ND; Supplier 2: Newark; Supplier Part Number 2: 39M8169; Code_JEDEC: MO-220; Code_IPC: QFN65P800X800-44V2; ComponentLink1Description: Datasheet; ComponentLink1URL: http://ww1.microchip.com/downloads/en/DeviceDoc/70290F.pdf; ComponentLink2Description: Packaging Specification; ComponentLink2URL: http://www.microchip.com/stellent/groups/techpub_sg/documents/packagingspec/en012702.pdf; ComponentLink3Description: Microchip.com Home; ComponentLink3URL: http://www.microchip.com/
footprint QFN-ML44_N (QFN, 44-Leads, Body 8x8 mm, Pitch 0.65mm, IPC Medium Density)
footprint QFN-ML44_L (QFN, 44-Leads, Body 8x8 mm, Pitch 0.65mm, IPC High Density)
footprint QFN-ML44_M (QFN, 44-Leads, Body 8x8 mm, Pitch 0.65mm, IPC Low Density)
pins: 1 SDA1/RP9/CN21/RB9 (io), 2 RP22/CN18/RC6 (io), 3 RP23/CN17/RC7 (io), 4 RP24/CN20/RC8 (io), 5 RP25/CN19/RC9 (io), 6 VSS (power), 7 VCAP/VDDCORE (power), 8 PGED2/RP10/CN16/RB10 (io), 9 PGEC2/RP11/CN15/RB11 (io), 10 AN12/RP12/CN14/RB12 (io), 11 AN11/RP13/CN13/RB13 (io), 12 TMS/RA10 (io), 13 TCK/RA7 (io), 14 AN10/RP14/CN12/RB14 (io), 15 AN9/RP15/CN11/RB15 (io), 16 AVSS (power), 17 AVDD (power), 18 ~{MCLR} (in), 19 AN0/VREF+/CN2/RA0 (io), 20 AN1/VREF-/CN3/RA1 (io), 21 PGED1/AN2/C2IN-/RP0/CN4/RB0 (io), 22 PGEC1/AN3/C2IN+/RP1/CN5/RB1 (io), 23 AN4/RP2/CN6/RB2 (io), 24 AN5/RP3/CN7/RB3 (io), 25 AN6/RP16/CN8/RC0 (io), 26 AN7/RP17/CN9/RC1 (io), 27 AN8/RP18/CN10/RC2 (io), 28 VDD (power), 29 VSS (power), 30 OSC1/CLKI/CN30/RA2 (io), 31 OSC2/CLKO/CN29/RA3 (io), 32 TDO/RA8 (io), 33 SOSCI/RP4/CN1/RB4 (io), 34 SOSCO/T1CK/CN0/RA4 (io), 35 TDI/RA9 (io), 36 RP19/CN28/RC3 (io), 37 RP20/CN25/RC4 (io), 38 RP21/CN26/RC5 (io), 39 VSS (power), 40 VDD (power), 41 PGED3/ASDA1/RP5/CN27/RB5 (io), 42 PGEC3/ASCL1/RP6/CN24/RB6 (io), 43 INT0/RP7/CN23/RB7 (io), 44 SCL1/RP8/CN22/RB8 (io), 45 Thermal Pad

## DSPIC33FJ32GP204-E/PT
designator U?
High-Performance 16-bit Digital Signal Controller, 32 KB Flash, 2 KB RAM, 44-Pin TQFP, Extended High Temperature; FirstPublished: 29-Jan-2009; LatestRevisionDate: 02-Dec-2009; LatestRevisionNote: Updated to datasheet revision F, Nov-2009; DatasheetVersion: revF, Nov-2009; PackageVersion: revBB, Aug-2009; PackageReference: TQFP-PT44; Publisher: Altium Limited; PackageDescription: 44-Lead Plastic Thin Quad Flatpack (PT) - 10x10x1mm Body, 2.00mm [TQFP]; Supplier 1: Digi-Key; Supplier Part Number 1: DSPIC33FJ32GP204-E/PT-ND; Supplier 2: Newark; Supplier Part Number 2: 39M8170; Code_JEDEC: MS-026; ComponentLink1Description: Datasheet; ComponentLink1URL: http://ww1.microchip.com/downloads/en/DeviceDoc/70290F.pdf; ComponentLink2Description: Packaging Specification; ComponentLink2URL: http://www.microchip.com/stellent/groups/techpub_sg/documents/packagingspec/en012702.pdf; ComponentLink3Description: Microchip.com Home; ComponentLink3URL: http://www.microchip.com/
footprint TQFP-PT44_N (Thin QFP, 44-Leads, Body 10x10mm, Pitch 0.8mm, IPC Medium Density)
footprint TQFP-PT44_L (Thin QFP, 44-Leads, Body 10x10mm, Pitch 0.8mm, IPC High Density)
footprint TQFP-PT44_M (Thin QFP, 44-Leads, Body 10x10mm, Pitch 0.8mm, IPC Low Density)
pins: 1 SDA1/RP9/CN21/RB9 (io), 2 RP22/CN18/RC6 (io), 3 RP23/CN17/RC7 (io), 4 RP24/CN20/RC8 (io), 5 RP25/CN19/RC9 (io), 6 VSS (power), 7 VCAP/VDDCORE (power), 8 PGED2/RP10/CN16/RB10 (io), 9 PGEC2/RP11/CN15/RB11 (io), 10 AN12/RP12/CN14/RB12 (io), 11 AN11/RP13/CN13/RB13 (io), 12 TMS/RA10 (io), 13 TCK/RA7 (io), 14 AN10/RP14/CN12/RB14 (io), 15 AN9/RP15/CN11/RB15 (io), 16 AVSS (power), 17 AVDD (power), 18 ~{MCLR} (in), 19 AN0/VREF+/CN2/RA0 (io), 20 AN1/VREF-/CN3/RA1 (io), 21 PGED1/AN2/C2IN-/RP0/CN4/RB0 (io), 22 PGEC1/AN3/C2IN+/RP1/CN5/RB1 (io), 23 AN4/RP2/CN6/RB2 (io), 24 AN5/RP3/CN7/RB3 (io), 25 AN6/RP16/CN8/RC0 (io), 26 AN7/RP17/CN9/RC1 (io), 27 AN8/RP18/CN10/RC2 (io), 28 VDD (power), 29 VSS (power), 30 OSC1/CLKI/CN30/RA2 (io), 31 OSC2/CLKO/CN29/RA3 (io), 32 TDO/RA8 (io), 33 SOSCI/RP4/CN1/RB4 (io), 34 SOSCO/T1CK/CN0/RA4 (io), 35 TDI/RA9 (io), 36 RP19/CN28/RC3 (io), 37 RP20/CN25/RC4 (io), 38 RP21/CN26/RC5 (io), 39 VSS (power), 40 VDD (power), 41 PGED3/ASDA1/RP5/CN27/RB5 (io), 42 PGEC3/ASCL1/RP6/CN24/RB6 (io), 43 INT0/RP7/CN23/RB7 (io), 44 SCL1/RP8/CN22/RB8 (io)

## DSPIC33FJ32GP204-I/ML
designator U?
High-Performance 16-bit Digital Signal Controller, 32 KB Flash, 2 KB RAM, 44-Pin QFN, Industrial Temperature; FirstPublished: 29-Jan-2009; LatestRevisionDate: 02-Dec-2009; LatestRevisionNote: Updated to datasheet revision F, Nov-2009; DatasheetVersion: revF, Nov-2009; PackageVersion: revBB, Aug-2009; PackageReference: QFN-ML44; Publisher: Altium Limited; PackageDescription: 44-Lead Plastic Quad Flat, No Lead Package (ML) - 8x8 mm Body [QFN]; Supplier 1: Digi-Key; Supplier Part Number 1: DSPIC33FJ32GP204-I/ML-ND; Supplier 2: Farnell; Supplier Part Number 2: 1576915; Supplier 3: Newark; Supplier Part Number 3: 39M8171; Code_JEDEC: MO-220; Code_IPC: QFN65P800X800-44V2; ComponentLink1Description: Datasheet; ComponentLink1URL: http://ww1.microchip.com/downloads/en/DeviceDoc/70290F.pdf; ComponentLink2Description: Packaging Specification; ComponentLink2URL: http://www.microchip.com/stellent/groups/techpub_sg/documents/packagingspec/en012702.pdf; ComponentLink3Description: Microchip.com Home; ComponentLink3URL: http://www.microchip.com/
footprint QFN-ML44_N (QFN, 44-Leads, Body 8x8 mm, Pitch 0.65mm, IPC Medium Density)
footprint QFN-ML44_L (QFN, 44-Leads, Body 8x8 mm, Pitch 0.65mm, IPC High Density)
footprint QFN-ML44_M (QFN, 44-Leads, Body 8x8 mm, Pitch 0.65mm, IPC Low Density)
pins: 1 SDA1/RP9/CN21/RB9 (io), 2 RP22/CN18/RC6 (io), 3 RP23/CN17/RC7 (io), 4 RP24/CN20/RC8 (io), 5 RP25/CN19/RC9 (io), 6 VSS (power), 7 VCAP/VDDCORE (power), 8 PGED2/RP10/CN16/RB10 (io), 9 PGEC2/RP11/CN15/RB11 (io), 10 AN12/RP12/CN14/RB12 (io), 11 AN11/RP13/CN13/RB13 (io), 12 TMS/RA10 (io), 13 TCK/RA7 (io), 14 AN10/RP14/CN12/RB14 (io), 15 AN9/RP15/CN11/RB15 (io), 16 AVSS (power), 17 AVDD (power), 18 ~{MCLR} (in), 19 AN0/VREF+/CN2/RA0 (io), 20 AN1/VREF-/CN3/RA1 (io), 21 PGED1/AN2/C2IN-/RP0/CN4/RB0 (io), 22 PGEC1/AN3/C2IN+/RP1/CN5/RB1 (io), 23 AN4/RP2/CN6/RB2 (io), 24 AN5/RP3/CN7/RB3 (io), 25 AN6/RP16/CN8/RC0 (io), 26 AN7/RP17/CN9/RC1 (io), 27 AN8/RP18/CN10/RC2 (io), 28 VDD (power), 29 VSS (power), 30 OSC1/CLKI/CN30/RA2 (io), 31 OSC2/CLKO/CN29/RA3 (io), 32 TDO/RA8 (io), 33 SOSCI/RP4/CN1/RB4 (io), 34 SOSCO/T1CK/CN0/RA4 (io), 35 TDI/RA9 (io), 36 RP19/CN28/RC3 (io), 37 RP20/CN25/RC4 (io), 38 RP21/CN26/RC5 (io), 39 VSS (power), 40 VDD (power), 41 PGED3/ASDA1/RP5/CN27/RB5 (io), 42 PGEC3/ASCL1/RP6/CN24/RB6 (io), 43 INT0/RP7/CN23/RB7 (io), 44 SCL1/RP8/CN22/RB8 (io), 45 Thermal Pad

## DSPIC33FJ32GP204-I/PT
designator U?
High-Performance 16-bit Digital Signal Controller, 32 KB Flash, 2 KB RAM, 44-Pin TQFP, Industrial Temperature; FirstPublished: 29-Jan-2009; LatestRevisionDate: 02-Dec-2009; LatestRevisionNote: Updated to datasheet revision F, Nov-2009; DatasheetVersion: revF, Nov-2009; PackageVersion: revBB, Aug-2009; PackageReference: TQFP-PT44; Publisher: Altium Limited; PackageDescription: 44-Lead Plastic Thin Quad Flatpack (PT) - 10x10x1mm Body, 2.00mm [TQFP]; Supplier 1: Digi-Key; Supplier Part Number 1: DSPIC33FJ32GP204-I/PT-ND; Supplier 2: Farnell; Supplier Part Number 2: 1576916; Supplier 3: Newark; Supplier Part Number 3: 39M8172; Code_JEDEC: MS-026; ComponentLink1Description: Datasheet; ComponentLink1URL: http://ww1.microchip.com/downloads/en/DeviceDoc/70290F.pdf; ComponentLink2Description: Packaging Specification; ComponentLink2URL: http://www.microchip.com/stellent/groups/techpub_sg/documents/packagingspec/en012702.pdf; ComponentLink3Description: Microchip.com Home; ComponentLink3URL: http://www.microchip.com/
footprint TQFP-PT44_N (Thin QFP, 44-Leads, Body 10x10mm, Pitch 0.8mm, IPC Medium Density)
footprint TQFP-PT44_L (Thin QFP, 44-Leads, Body 10x10mm, Pitch 0.8mm, IPC High Density)
footprint TQFP-PT44_M (Thin QFP, 44-Leads, Body 10x10mm, Pitch 0.8mm, IPC Low Density)
pins: 1 SDA1/RP9/CN21/RB9 (io), 2 RP22/CN18/RC6 (io), 3 RP23/CN17/RC7 (io), 4 RP24/CN20/RC8 (io), 5 RP25/CN19/RC9 (io), 6 VSS (power), 7 VCAP/VDDCORE (power), 8 PGED2/RP10/CN16/RB10 (io), 9 PGEC2/RP11/CN15/RB11 (io), 10 AN12/RP12/CN14/RB12 (io), 11 AN11/RP13/CN13/RB13 (io), 12 TMS/RA10 (io), 13 TCK/RA7 (io), 14 AN10/RP14/CN12/RB14 (io), 15 AN9/RP15/CN11/RB15 (io), 16 AVSS (power), 17 AVDD (power), 18 ~{MCLR} (in), 19 AN0/VREF+/CN2/RA0 (io), 20 AN1/VREF-/CN3/RA1 (io), 21 PGED1/AN2/C2IN-/RP0/CN4/RB0 (io), 22 PGEC1/AN3/C2IN+/RP1/CN5/RB1 (io), 23 AN4/RP2/CN6/RB2 (io), 24 AN5/RP3/CN7/RB3 (io), 25 AN6/RP16/CN8/RC0 (io), 26 AN7/RP17/CN9/RC1 (io), 27 AN8/RP18/CN10/RC2 (io), 28 VDD (power), 29 VSS (power), 30 OSC1/CLKI/CN30/RA2 (io), 31 OSC2/CLKO/CN29/RA3 (io), 32 TDO/RA8 (io), 33 SOSCI/RP4/CN1/RB4 (io), 34 SOSCO/T1CK/CN0/RA4 (io), 35 TDI/RA9 (io), 36 RP19/CN28/RC3 (io), 37 RP20/CN25/RC4 (io), 38 RP21/CN26/RC5 (io), 39 VSS (power), 40 VDD (power), 41 PGED3/ASDA1/RP5/CN27/RB5 (io), 42 PGEC3/ASCL1/RP6/CN24/RB6 (io), 43 INT0/RP7/CN23/RB7 (io), 44 SCL1/RP8/CN22/RB8 (io)

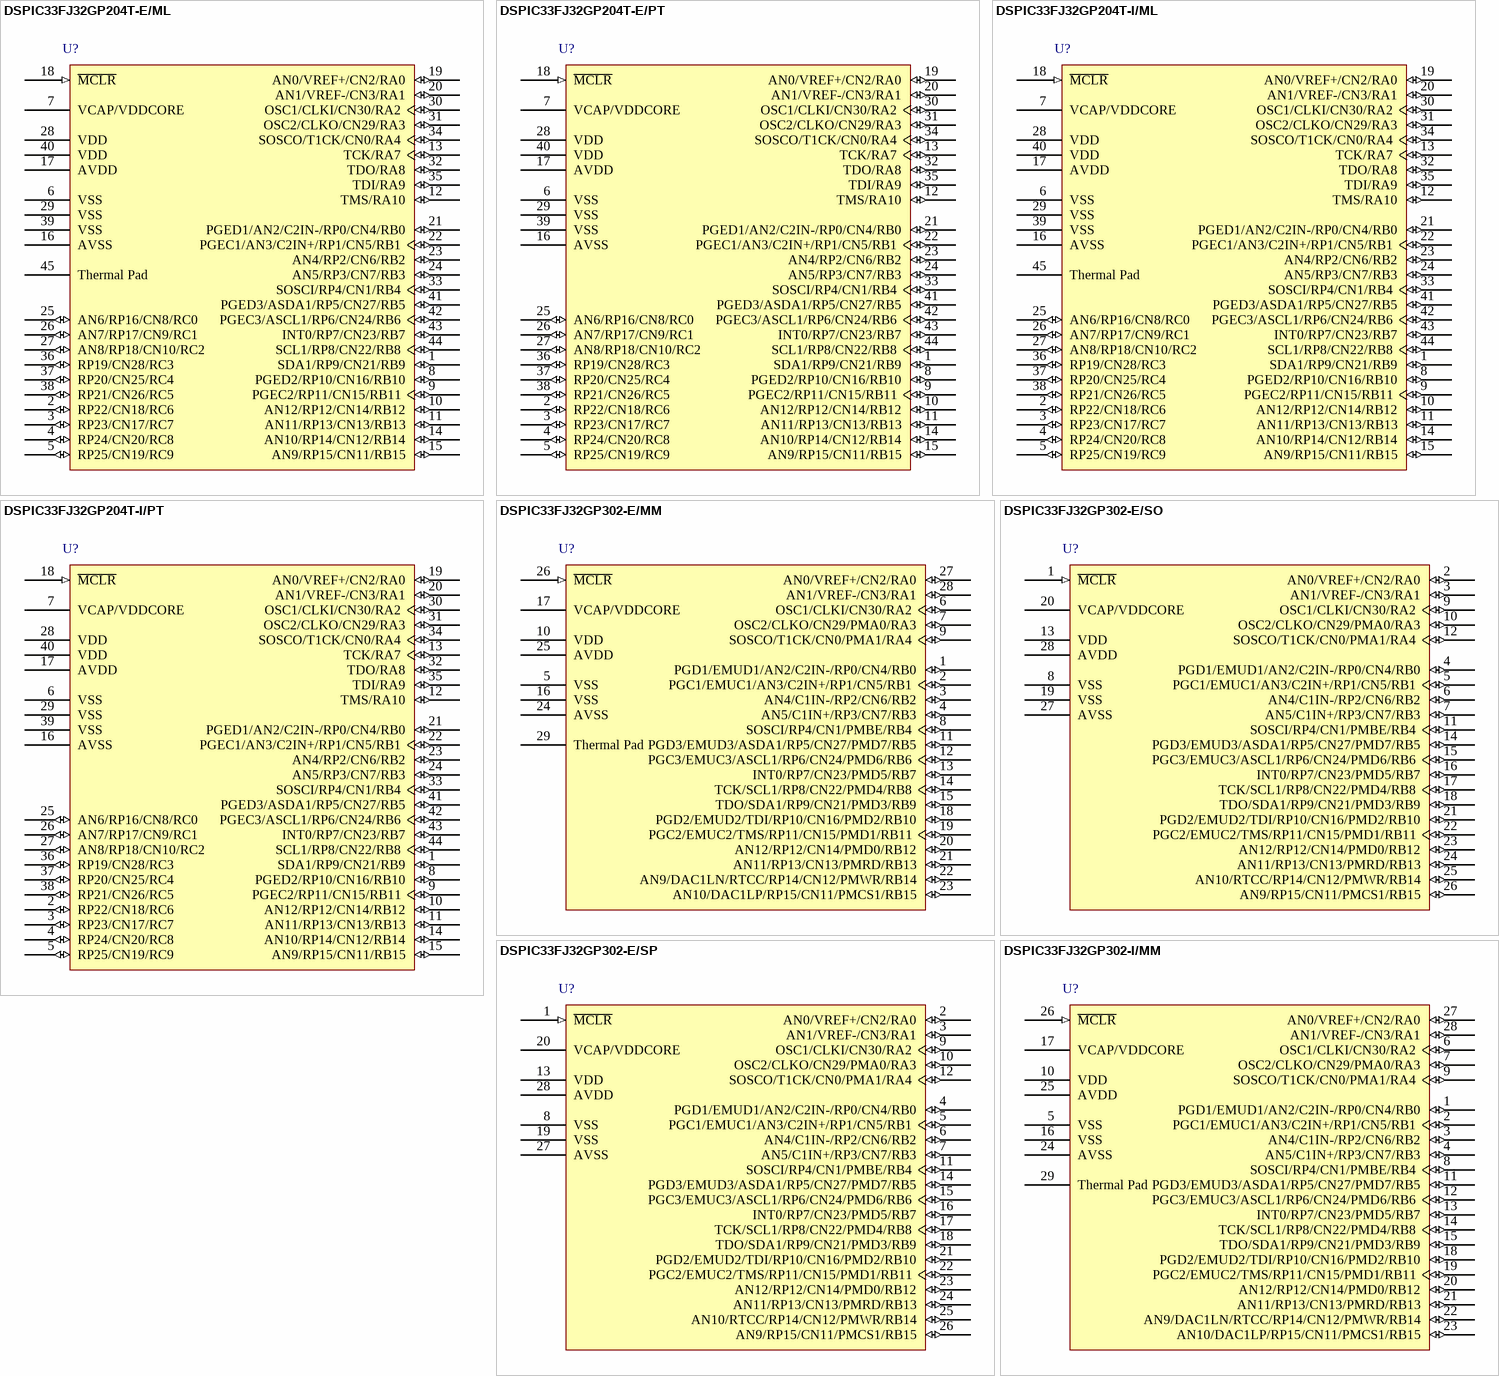
[diagram p16: symbols DSPIC33FJ32GP204T-E/ML to DSPIC33FJ32GP302-I/MM]

## DSPIC33FJ32GP204T-E/ML
designator U?
High-Performance 16-bit Digital Signal Controller, 32 KB Flash, 2 KB RAM, 44-Pin QFN, Extended High Temperature, Tape and Reel; FirstPublished: 29-Jan-2009; LatestRevisionDate: 02-Dec-2009; LatestRevisionNote: Updated to datasheet revision F, Nov-2009; DatasheetVersion: revF, Nov-2009; PackageVersion: revBB, Aug-2009; PackageReference: QFN-ML44; Publisher: Altium Limited; PackageDescription: 44-Lead Plastic Quad Flat, No Lead Package (ML) - 8x8 mm Body [QFN]; Code_JEDEC: MO-220; Code_IPC: QFN65P800X800-44V2; ComponentLink1Description: Datasheet; ComponentLink1URL: http://ww1.microchip.com/downloads/en/DeviceDoc/70290F.pdf; ComponentLink2Description: Packaging Specification; ComponentLink2URL: http://www.microchip.com/stellent/groups/techpub_sg/documents/packagingspec/en012702.pdf; ComponentLink3Description: Microchip.com Home; ComponentLink3URL: http://www.microchip.com/
footprint QFN-ML44_N (QFN, 44-Leads, Body 8x8 mm, Pitch 0.65mm, IPC Medium Density)
footprint QFN-ML44_L (QFN, 44-Leads, Body 8x8 mm, Pitch 0.65mm, IPC High Density)
footprint QFN-ML44_M (QFN, 44-Leads, Body 8x8 mm, Pitch 0.65mm, IPC Low Density)
pins: 1 SDA1/RP9/CN21/RB9 (io), 2 RP22/CN18/RC6 (io), 3 RP23/CN17/RC7 (io), 4 RP24/CN20/RC8 (io), 5 RP25/CN19/RC9 (io), 6 VSS (power), 7 VCAP/VDDCORE (power), 8 PGED2/RP10/CN16/RB10 (io), 9 PGEC2/RP11/CN15/RB11 (io), 10 AN12/RP12/CN14/RB12 (io), 11 AN11/RP13/CN13/RB13 (io), 12 TMS/RA10 (io), 13 TCK/RA7 (io), 14 AN10/RP14/CN12/RB14 (io), 15 AN9/RP15/CN11/RB15 (io), 16 AVSS (power), 17 AVDD (power), 18 ~{MCLR} (in), 19 AN0/VREF+/CN2/RA0 (io), 20 AN1/VREF-/CN3/RA1 (io), 21 PGED1/AN2/C2IN-/RP0/CN4/RB0 (io), 22 PGEC1/AN3/C2IN+/RP1/CN5/RB1 (io), 23 AN4/RP2/CN6/RB2 (io), 24 AN5/RP3/CN7/RB3 (io), 25 AN6/RP16/CN8/RC0 (io), 26 AN7/RP17/CN9/RC1 (io), 27 AN8/RP18/CN10/RC2 (io), 28 VDD (power), 29 VSS (power), 30 OSC1/CLKI/CN30/RA2 (io), 31 OSC2/CLKO/CN29/RA3 (io), 32 TDO/RA8 (io), 33 SOSCI/RP4/CN1/RB4 (io), 34 SOSCO/T1CK/CN0/RA4 (io), 35 TDI/RA9 (io), 36 RP19/CN28/RC3 (io), 37 RP20/CN25/RC4 (io), 38 RP21/CN26/RC5 (io), 39 VSS (power), 40 VDD (power), 41 PGED3/ASDA1/RP5/CN27/RB5 (io), 42 PGEC3/ASCL1/RP6/CN24/RB6 (io), 43 INT0/RP7/CN23/RB7 (io), 44 SCL1/RP8/CN22/RB8 (io), 45 Thermal Pad

## DSPIC33FJ32GP204T-E/PT
designator U?
High-Performance 16-bit Digital Signal Controller, 32 KB Flash, 2 KB RAM, 44-Pin TQFP, Extended High Temperature, Tape and Reel; FirstPublished: 29-Jan-2009; LatestRevisionDate: 02-Dec-2009; LatestRevisionNote: Updated to datasheet revision F, Nov-2009; DatasheetVersion: revF, Nov-2009; PackageVersion: revBB, Aug-2009; PackageReference: TQFP-PT44; Publisher: Altium Limited; PackageDescription: 44-Lead Plastic Thin Quad Flatpack (PT) - 10x10x1mm Body, 2.00mm [TQFP]; Code_JEDEC: MS-026; ComponentLink1Description: Datasheet; ComponentLink1URL: http://ww1.microchip.com/downloads/en/DeviceDoc/70290F.pdf; ComponentLink2Description: Packaging Specification; ComponentLink2URL: http://www.microchip.com/stellent/groups/techpub_sg/documents/packagingspec/en012702.pdf; ComponentLink3Description: Microchip.com Home; ComponentLink3URL: http://www.microchip.com/
footprint TQFP-PT44_N (Thin QFP, 44-Leads, Body 10x10mm, Pitch 0.8mm, IPC Medium Density)
footprint TQFP-PT44_L (Thin QFP, 44-Leads, Body 10x10mm, Pitch 0.8mm, IPC High Density)
footprint TQFP-PT44_M (Thin QFP, 44-Leads, Body 10x10mm, Pitch 0.8mm, IPC Low Density)
pins: 1 SDA1/RP9/CN21/RB9 (io), 2 RP22/CN18/RC6 (io), 3 RP23/CN17/RC7 (io), 4 RP24/CN20/RC8 (io), 5 RP25/CN19/RC9 (io), 6 VSS (power), 7 VCAP/VDDCORE (power), 8 PGED2/RP10/CN16/RB10 (io), 9 PGEC2/RP11/CN15/RB11 (io), 10 AN12/RP12/CN14/RB12 (io), 11 AN11/RP13/CN13/RB13 (io), 12 TMS/RA10 (io), 13 TCK/RA7 (io), 14 AN10/RP14/CN12/RB14 (io), 15 AN9/RP15/CN11/RB15 (io), 16 AVSS (power), 17 AVDD (power), 18 ~{MCLR} (in), 19 AN0/VREF+/CN2/RA0 (io), 20 AN1/VREF-/CN3/RA1 (io), 21 PGED1/AN2/C2IN-/RP0/CN4/RB0 (io), 22 PGEC1/AN3/C2IN+/RP1/CN5/RB1 (io), 23 AN4/RP2/CN6/RB2 (io), 24 AN5/RP3/CN7/RB3 (io), 25 AN6/RP16/CN8/RC0 (io), 26 AN7/RP17/CN9/RC1 (io), 27 AN8/RP18/CN10/RC2 (io), 28 VDD (power), 29 VSS (power), 30 OSC1/CLKI/CN30/RA2 (io), 31 OSC2/CLKO/CN29/RA3 (io), 32 TDO/RA8 (io), 33 SOSCI/RP4/CN1/RB4 (io), 34 SOSCO/T1CK/CN0/RA4 (io), 35 TDI/RA9 (io), 36 RP19/CN28/RC3 (io), 37 RP20/CN25/RC4 (io), 38 RP21/CN26/RC5 (io), 39 VSS (power), 40 VDD (power), 41 PGED3/ASDA1/RP5/CN27/RB5 (io), 42 PGEC3/ASCL1/RP6/CN24/RB6 (io), 43 INT0/RP7/CN23/RB7 (io), 44 SCL1/RP8/CN22/RB8 (io)

## DSPIC33FJ32GP204T-I/ML
designator U?
High-Performance 16-bit Digital Signal Controller, 32 KB Flash, 2 KB RAM, 44-Pin QFN, Industrial Temperature, Tape and Reel; FirstPublished: 29-Jan-2009; LatestRevisionDate: 02-Dec-2009; LatestRevisionNote: Updated to datasheet revision F, Nov-2009; DatasheetVersion: revF, Nov-2009; PackageVersion: revBB, Aug-2009; PackageReference: QFN-ML44; Publisher: Altium Limited; PackageDescription: 44-Lead Plastic Quad Flat, No Lead Package (ML) - 8x8 mm Body [QFN]; Supplier 1: Digi-Key; Supplier Part Number 1: DSPIC33FJ32GP204T-I/MLTR-ND; Supplier 2: Newark; Supplier Part Number 2: 39M8173; Code_JEDEC: MO-220; Code_IPC: QFN65P800X800-44V2; ComponentLink1Description: Datasheet; ComponentLink1URL: http://ww1.microchip.com/downloads/en/DeviceDoc/70290F.pdf; ComponentLink2Description: Packaging Specification; ComponentLink2URL: http://www.microchip.com/stellent/groups/techpub_sg/documents/packagingspec/en012702.pdf; ComponentLink3Description: Microchip.com Home; ComponentLink3URL: http://www.microchip.com/
footprint QFN-ML44_N (QFN, 44-Leads, Body 8x8 mm, Pitch 0.65mm, IPC Medium Density)
footprint QFN-ML44_L (QFN, 44-Leads, Body 8x8 mm, Pitch 0.65mm, IPC High Density)
footprint QFN-ML44_M (QFN, 44-Leads, Body 8x8 mm, Pitch 0.65mm, IPC Low Density)
pins: 1 SDA1/RP9/CN21/RB9 (io), 2 RP22/CN18/RC6 (io), 3 RP23/CN17/RC7 (io), 4 RP24/CN20/RC8 (io), 5 RP25/CN19/RC9 (io), 6 VSS (power), 7 VCAP/VDDCORE (power), 8 PGED2/RP10/CN16/RB10 (io), 9 PGEC2/RP11/CN15/RB11 (io), 10 AN12/RP12/CN14/RB12 (io), 11 AN11/RP13/CN13/RB13 (io), 12 TMS/RA10 (io), 13 TCK/RA7 (io), 14 AN10/RP14/CN12/RB14 (io), 15 AN9/RP15/CN11/RB15 (io), 16 AVSS (power), 17 AVDD (power), 18 ~{MCLR} (in), 19 AN0/VREF+/CN2/RA0 (io), 20 AN1/VREF-/CN3/RA1 (io), 21 PGED1/AN2/C2IN-/RP0/CN4/RB0 (io), 22 PGEC1/AN3/C2IN+/RP1/CN5/RB1 (io), 23 AN4/RP2/CN6/RB2 (io), 24 AN5/RP3/CN7/RB3 (io), 25 AN6/RP16/CN8/RC0 (io), 26 AN7/RP17/CN9/RC1 (io), 27 AN8/RP18/CN10/RC2 (io), 28 VDD (power), 29 VSS (power), 30 OSC1/CLKI/CN30/RA2 (io), 31 OSC2/CLKO/CN29/RA3 (io), 32 TDO/RA8 (io), 33 SOSCI/RP4/CN1/RB4 (io), 34 SOSCO/T1CK/CN0/RA4 (io), 35 TDI/RA9 (io), 36 RP19/CN28/RC3 (io), 37 RP20/CN25/RC4 (io), 38 RP21/CN26/RC5 (io), 39 VSS (power), 40 VDD (power), 41 PGED3/ASDA1/RP5/CN27/RB5 (io), 42 PGEC3/ASCL1/RP6/CN24/RB6 (io), 43 INT0/RP7/CN23/RB7 (io), 44 SCL1/RP8/CN22/RB8 (io), 45 Thermal Pad

## DSPIC33FJ32GP204T-I/PT
designator U?
High-Performance 16-bit Digital Signal Controller, 32 KB Flash, 2 KB RAM, 44-Pin TQFP, Industrial Temperature, Tape and Reel; FirstPublished: 29-Jan-2009; LatestRevisionDate: 02-Dec-2009; LatestRevisionNote: Updated to datasheet revision F, Nov-2009; DatasheetVersion: revF, Nov-2009; PackageVersion: revBB, Aug-2009; PackageReference: TQFP-PT44; Publisher: Altium Limited; PackageDescription: 44-Lead Plastic Thin Quad Flatpack (PT) - 10x10x1mm Body, 2.00mm [TQFP]; Supplier 1: Digi-Key; Supplier Part Number 1: DSPIC33FJ32GP204T-I/PTTR-ND; Supplier 2: Newark; Supplier Part Number 2: 39M8174; Code_JEDEC: MS-026; ComponentLink1Description: Datasheet; ComponentLink1URL: http://ww1.microchip.com/downloads/en/DeviceDoc/70290F.pdf; ComponentLink2Description: Packaging Specification; ComponentLink2URL: http://www.microchip.com/stellent/groups/techpub_sg/documents/packagingspec/en012702.pdf; ComponentLink3Description: Microchip.com Home; ComponentLink3URL: http://www.microchip.com/
footprint TQFP-PT44_N (Thin QFP, 44-Leads, Body 10x10mm, Pitch 0.8mm, IPC Medium Density)
footprint TQFP-PT44_L (Thin QFP, 44-Leads, Body 10x10mm, Pitch 0.8mm, IPC High Density)
footprint TQFP-PT44_M (Thin QFP, 44-Leads, Body 10x10mm, Pitch 0.8mm, IPC Low Density)
pins: 1 SDA1/RP9/CN21/RB9 (io), 2 RP22/CN18/RC6 (io), 3 RP23/CN17/RC7 (io), 4 RP24/CN20/RC8 (io), 5 RP25/CN19/RC9 (io), 6 VSS (power), 7 VCAP/VDDCORE (power), 8 PGED2/RP10/CN16/RB10 (io), 9 PGEC2/RP11/CN15/RB11 (io), 10 AN12/RP12/CN14/RB12 (io), 11 AN11/RP13/CN13/RB13 (io), 12 TMS/RA10 (io), 13 TCK/RA7 (io), 14 AN10/RP14/CN12/RB14 (io), 15 AN9/RP15/CN11/RB15 (io), 16 AVSS (power), 17 AVDD (power), 18 ~{MCLR} (in), 19 AN0/VREF+/CN2/RA0 (io), 20 AN1/VREF-/CN3/RA1 (io), 21 PGED1/AN2/C2IN-/RP0/CN4/RB0 (io), 22 PGEC1/AN3/C2IN+/RP1/CN5/RB1 (io), 23 AN4/RP2/CN6/RB2 (io), 24 AN5/RP3/CN7/RB3 (io), 25 AN6/RP16/CN8/RC0 (io), 26 AN7/RP17/CN9/RC1 (io), 27 AN8/RP18/CN10/RC2 (io), 28 VDD (power), 29 VSS (power), 30 OSC1/CLKI/CN30/RA2 (io), 31 OSC2/CLKO/CN29/RA3 (io), 32 TDO/RA8 (io), 33 SOSCI/RP4/CN1/RB4 (io), 34 SOSCO/T1CK/CN0/RA4 (io), 35 TDI/RA9 (io), 36 RP19/CN28/RC3 (io), 37 RP20/CN25/RC4 (io), 38 RP21/CN26/RC5 (io), 39 VSS (power), 40 VDD (power), 41 PGED3/ASDA1/RP5/CN27/RB5 (io), 42 PGEC3/ASCL1/RP6/CN24/RB6 (io), 43 INT0/RP7/CN23/RB7 (io), 44 SCL1/RP8/CN22/RB8 (io)

## DSPIC33FJ32GP302-E/MM
designator U?
High-Performance 16-bit Digital Signal Controller, 32 KB Flash, 4 KB RAM, 28-Pin QFN, Extended High Temperature; FirstPublished: 29-Jan-2009; LatestRevisionDate: 02-Dec-2009; LatestRevisionNote: Updated to datasheet revision D, Nov-2009; DatasheetVersion: revD, Nov-2009; PackageVersion: revBB, Aug-2009; PackageReference: QFNS-MM28; Publisher: Altium Limited; PackageDescription: 28-Lead Plastic Quad Flat, No Lead Package (MM) - 6x6x0.9 mm Body [QFN-S] with 0.40 mm Contact Length; Supplier 1: Digi-Key; Supplier Part Number 1: DSPIC33FJ32GP302-E/MM-ND; Supplier 2: Newark; Supplier Part Number 2: 77M2364; ComponentLink1Description: Datasheet; ComponentLink1URL: http://ww1.microchip.com/downloads/en/DeviceDoc/70292D.pdf; ComponentLink2Description: Packaging Specification; ComponentLink2URL: http://www.microchip.com/stellent/groups/techpub_sg/documents/packagingspec/en012702.pdf; ComponentLink3Description: Microchip.com Home; ComponentLink3URL: http://www.microchip.com/
footprint QFNS-MM28_N (QFN, 28-Leads, Body 6x6 mm, Pitch 0.65mm, IPC Medium Density)
footprint QFNS-MM28_L (QFN, 28-Leads, Body 6x6 mm, Pitch 0.65mm, IPC High Density)
footprint QFNS-MM28_M (QFN, 28-Leads, Body 6x6 mm, Pitch 0.65mm, IPC Low Density)
pins: 1 PGD1/EMUD1/AN2/C2IN-/RP0/CN4/RB0 (io), 2 PGC1/EMUC1/AN3/C2IN+/RP1/CN5/RB1 (io), 3 AN4/C1IN-/RP2/CN6/RB2 (io), 4 AN5/C1IN+/RP3/CN7/RB3 (io), 5 VSS (power), 6 OSC1/CLKI/CN30/RA2 (io), 7 OSC2/CLKO/CN29/PMA0/RA3 (io), 8 SOSCI/RP4/CN1/PMBE/RB4 (io), 9 SOSCO/T1CK/CN0/PMA1/RA4 (io), 10 VDD (power), 11 PGD3/EMUD3/ASDA1/RP5/CN27/PMD7/RB5 (io), 12 PGC3/EMUC3/ASCL1/RP6/CN24/PMD6/RB6 (io), 13 INT0/RP7/CN23/PMD5/RB7 (io), 14 TCK/SCL1/RP8/CN22/PMD4/RB8 (io), 15 TDO/SDA1/RP9/CN21/PMD3/RB9 (io), 16 VSS (power), 17 VCAP/VDDCORE (power), 18 PGD2/EMUD2/TDI/RP10/CN16/PMD2/RB10 (io), 19 PGC2/EMUC2/TMS/RP11/CN15/PMD1/RB11 (io), 20 AN12/RP12/CN14/PMD0/RB12 (io), 21 AN11/RP13/CN13/PMRD/RB13 (io), 22 AN9/DAC1LN/RTCC/RP14/CN12/PMWR/RB14 (io), 23 AN10/DAC1LP/RP15/CN11/PMCS1/RB15 (io), 24 AVSS (power), 25 AVDD (power), 26 ~{MCLR} (in), 27 AN0/VREF+/CN2/RA0 (io), 28 AN1/VREF-/CN3/RA1 (io), 29 Thermal Pad

## DSPIC33FJ32GP302-E/SO
designator U?
High-Performance 16-bit Digital Signal Controller, 32 KB Flash, 4 KB RAM, 28-Pin SOIC, Extended High Temperature; FirstPublished: 29-Jan-2009; LatestRevisionDate: 02-Dec-2009; LatestRevisionNote: Updated to datasheet revision D, Nov-2009; DatasheetVersion: revD, Nov-2009; PackageVersion: revBB, Aug-2009; PackageReference: SOIC-SO28; Publisher: Altium Limited; PackageDescription: 28-Lead Plastic Small Outline (SO) - Wide 7.50mm Body [SOIC]; Supplier 1: Digi-Key; Supplier Part Number 1: DSPIC33FJ32GP302-E/SO-ND; Supplier 2: Newark; Supplier Part Number 2: 39M8175; Code_JEDEC: MS-013; ComponentLink1Description: Datasheet; ComponentLink1URL: http://ww1.microchip.com/downloads/en/DeviceDoc/70292D.pdf; ComponentLink2Description: Packaging Specification; ComponentLink2URL: http://www.microchip.com/stellent/groups/techpub_sg/documents/packagingspec/en012702.pdf; ComponentLink3Description: Microchip.com Home; ComponentLink3URL: http://www.microchip.com/
footprint SOIC-SO28_N (SOIC, 28-Leads, Body 17.9x7.5mm, Pitch 1.27mm, IPC Medium Density)
footprint SOIC-SO28_L (SOIC, 28-Leads, Body 17.9x7.5mm, Pitch 1.27mm, IPC High Density)
footprint SOIC-SO28_M (SOIC, 28-Leads, Body 17.9x7.5mm, Pitch 1.27mm, IPC Low Density)
pins: 1 ~{MCLR} (in), 2 AN0/VREF+/CN2/RA0 (io), 3 AN1/VREF-/CN3/RA1 (io), 4 PGD1/EMUD1/AN2/C2IN-/RP0/CN4/RB0 (io), 5 PGC1/EMUC1/AN3/C2IN+/RP1/CN5/RB1 (io), 6 AN4/C1IN-/RP2/CN6/RB2 (io), 7 AN5/C1IN+/RP3/CN7/RB3 (io), 8 VSS (power), 9 OSC1/CLKI/CN30/RA2 (io), 10 OSC2/CLKO/CN29/PMA0/RA3 (io), 11 SOSCI/RP4/CN1/PMBE/RB4 (io), 12 SOSCO/T1CK/CN0/PMA1/RA4 (io), 13 VDD (power), 14 PGD3/EMUD3/ASDA1/RP5/CN27/PMD7/RB5 (io), 15 PGC3/EMUC3/ASCL1/RP6/CN24/PMD6/RB6 (io), 16 INT0/RP7/CN23/PMD5/RB7 (io), 17 TCK/SCL1/RP8/CN22/PMD4/RB8 (io), 18 TDO/SDA1/RP9/CN21/PMD3/RB9 (io), 19 VSS (power), 20 VCAP/VDDCORE (power), 21 PGD2/EMUD2/TDI/RP10/CN16/PMD2/RB10 (io), 22 PGC2/EMUC2/TMS/RP11/CN15/PMD1/RB11 (io), 23 AN12/RP12/CN14/PMD0/RB12 (io), 24 AN11/RP13/CN13/PMRD/RB13 (io), 25 AN10/RTCC/RP14/CN12/PMWR/RB14 (io), 26 AN9/RP15/CN11/PMCS1/RB15 (io), 27 AVSS (power), 28 AVDD (power)

## DSPIC33FJ32GP302-E/SP
designator U?
High-Performance 16-bit Digital Signal Controller, 32 KB Flash, 4 KB RAM, 28-Pin SPDIP, Extended High Temperature; FirstPublished: 29-Jan-2009; LatestRevisionDate: 02-Dec-2009; LatestRevisionNote: Updated to datasheet revision D, Nov-2009; DatasheetVersion: revD, Nov-2009; PackageVersion: revBB, Aug-2009; PackageReference: SPDIP300-SP28; Publisher: Altium Limited; PackageDescription: 28-Lead Skinny Plastic Dual In-Line (SP) - 300 mil Body [SPDIP]; Supplier 1: Digi-Key; Supplier Part Number 1: DSPIC33FJ32GP302-E/SP-ND; Supplier 2: Newark; Supplier Part Number 2: 39M8176; ComponentLink1Description: Datasheet; ComponentLink1URL: http://ww1.microchip.com/downloads/en/DeviceDoc/70292D.pdf; ComponentLink2Description: Packaging Specification; ComponentLink2URL: http://www.microchip.com/stellent/groups/techpub_sg/documents/packagingspec/en012702.pdf; ComponentLink3Description: Microchip.com Home; ComponentLink3URL: http://www.microchip.com/
footprint SPDIP300-SP28 (DIP, 28-Leads, Row Spacing 7.62mm, Pitch 2.54mm, Body 34.9x6.8mm)
pins: 1 ~{MCLR} (in), 2 AN0/VREF+/CN2/RA0 (io), 3 AN1/VREF-/CN3/RA1 (io), 4 PGD1/EMUD1/AN2/C2IN-/RP0/CN4/RB0 (io), 5 PGC1/EMUC1/AN3/C2IN+/RP1/CN5/RB1 (io), 6 AN4/C1IN-/RP2/CN6/RB2 (io), 7 AN5/C1IN+/RP3/CN7/RB3 (io), 8 VSS (power), 9 OSC1/CLKI/CN30/RA2 (io), 10 OSC2/CLKO/CN29/PMA0/RA3 (io), 11 SOSCI/RP4/CN1/PMBE/RB4 (io), 12 SOSCO/T1CK/CN0/PMA1/RA4 (io), 13 VDD (power), 14 PGD3/EMUD3/ASDA1/RP5/CN27/PMD7/RB5 (io), 15 PGC3/EMUC3/ASCL1/RP6/CN24/PMD6/RB6 (io), 16 INT0/RP7/CN23/PMD5/RB7 (io), 17 TCK/SCL1/RP8/CN22/PMD4/RB8 (io), 18 TDO/SDA1/RP9/CN21/PMD3/RB9 (io), 19 VSS (power), 20 VCAP/VDDCORE (power), 21 PGD2/EMUD2/TDI/RP10/CN16/PMD2/RB10 (io), 22 PGC2/EMUC2/TMS/RP11/CN15/PMD1/RB11 (io), 23 AN12/RP12/CN14/PMD0/RB12 (io), 24 AN11/RP13/CN13/PMRD/RB13 (io), 25 AN10/RTCC/RP14/CN12/PMWR/RB14 (io), 26 AN9/RP15/CN11/PMCS1/RB15 (io), 27 AVSS (power), 28 AVDD (power)

## DSPIC33FJ32GP302-I/MM
designator U?
High-Performance 16-bit Digital Signal Controller, 32 KB Flash, 4 KB RAM, 28-Pin QFN, Industrial Temperature; FirstPublished: 2-Dec-2009; DatasheetVersion: revD, Nov-2009; PackageVersion: revBB, Aug-2009; PackageReference: QFNS-MM28; Publisher: Altium Limited; PackageDescription: 28-Lead Plastic Quad Flat, No Lead Package (MM) - 6x6x0.9 mm Body [QFN-S] with 0.40 mm Contact Length; Supplier 1: Digi-Key; Supplier Part Number 1: DSPIC33FJ32GP302-I/MM-ND; Supplier 2: Farnell; Supplier Part Number 2: 1576812; Supplier 3: Newark; Supplier Part Number 3: 77M2365; ComponentLink1Description: Datasheet; ComponentLink1URL: http://ww1.microchip.com/downloads/en/DeviceDoc/70292D.pdf; ComponentLink2Description: Packaging Specification; ComponentLink2URL: http://www.microchip.com/stellent/groups/techpub_sg/documents/packagingspec/en012702.pdf; ComponentLink3Description: Microchip.com Home; ComponentLink3URL: http://www.microchip.com/
footprint QFNS-MM28_N (QFN, 28-Leads, Body 6x6 mm, Pitch 0.65mm, IPC Medium Density)
footprint QFNS-MM28_L (QFN, 28-Leads, Body 6x6 mm, Pitch 0.65mm, IPC High Density)
footprint QFNS-MM28_M (QFN, 28-Leads, Body 6x6 mm, Pitch 0.65mm, IPC Low Density)
pins: 1 PGD1/EMUD1/AN2/C2IN-/RP0/CN4/RB0 (io), 2 PGC1/EMUC1/AN3/C2IN+/RP1/CN5/RB1 (io), 3 AN4/C1IN-/RP2/CN6/RB2 (io), 4 AN5/C1IN+/RP3/CN7/RB3 (io), 5 VSS (power), 6 OSC1/CLKI/CN30/RA2 (io), 7 OSC2/CLKO/CN29/PMA0/RA3 (io), 8 SOSCI/RP4/CN1/PMBE/RB4 (io), 9 SOSCO/T1CK/CN0/PMA1/RA4 (io), 10 VDD (power), 11 PGD3/EMUD3/ASDA1/RP5/CN27/PMD7/RB5 (io), 12 PGC3/EMUC3/ASCL1/RP6/CN24/PMD6/RB6 (io), 13 INT0/RP7/CN23/PMD5/RB7 (io), 14 TCK/SCL1/RP8/CN22/PMD4/RB8 (io), 15 TDO/SDA1/RP9/CN21/PMD3/RB9 (io), 16 VSS (power), 17 VCAP/VDDCORE (power), 18 PGD2/EMUD2/TDI/RP10/CN16/PMD2/RB10 (io), 19 PGC2/EMUC2/TMS/RP11/CN15/PMD1/RB11 (io), 20 AN12/RP12/CN14/PMD0/RB12 (io), 21 AN11/RP13/CN13/PMRD/RB13 (io), 22 AN9/DAC1LN/RTCC/RP14/CN12/PMWR/RB14 (io), 23 AN10/DAC1LP/RP15/CN11/PMCS1/RB15 (io), 24 AVSS (power), 25 AVDD (power), 26 ~{MCLR} (in), 27 AN0/VREF+/CN2/RA0 (io), 28 AN1/VREF-/CN3/RA1 (io), 29 Thermal Pad

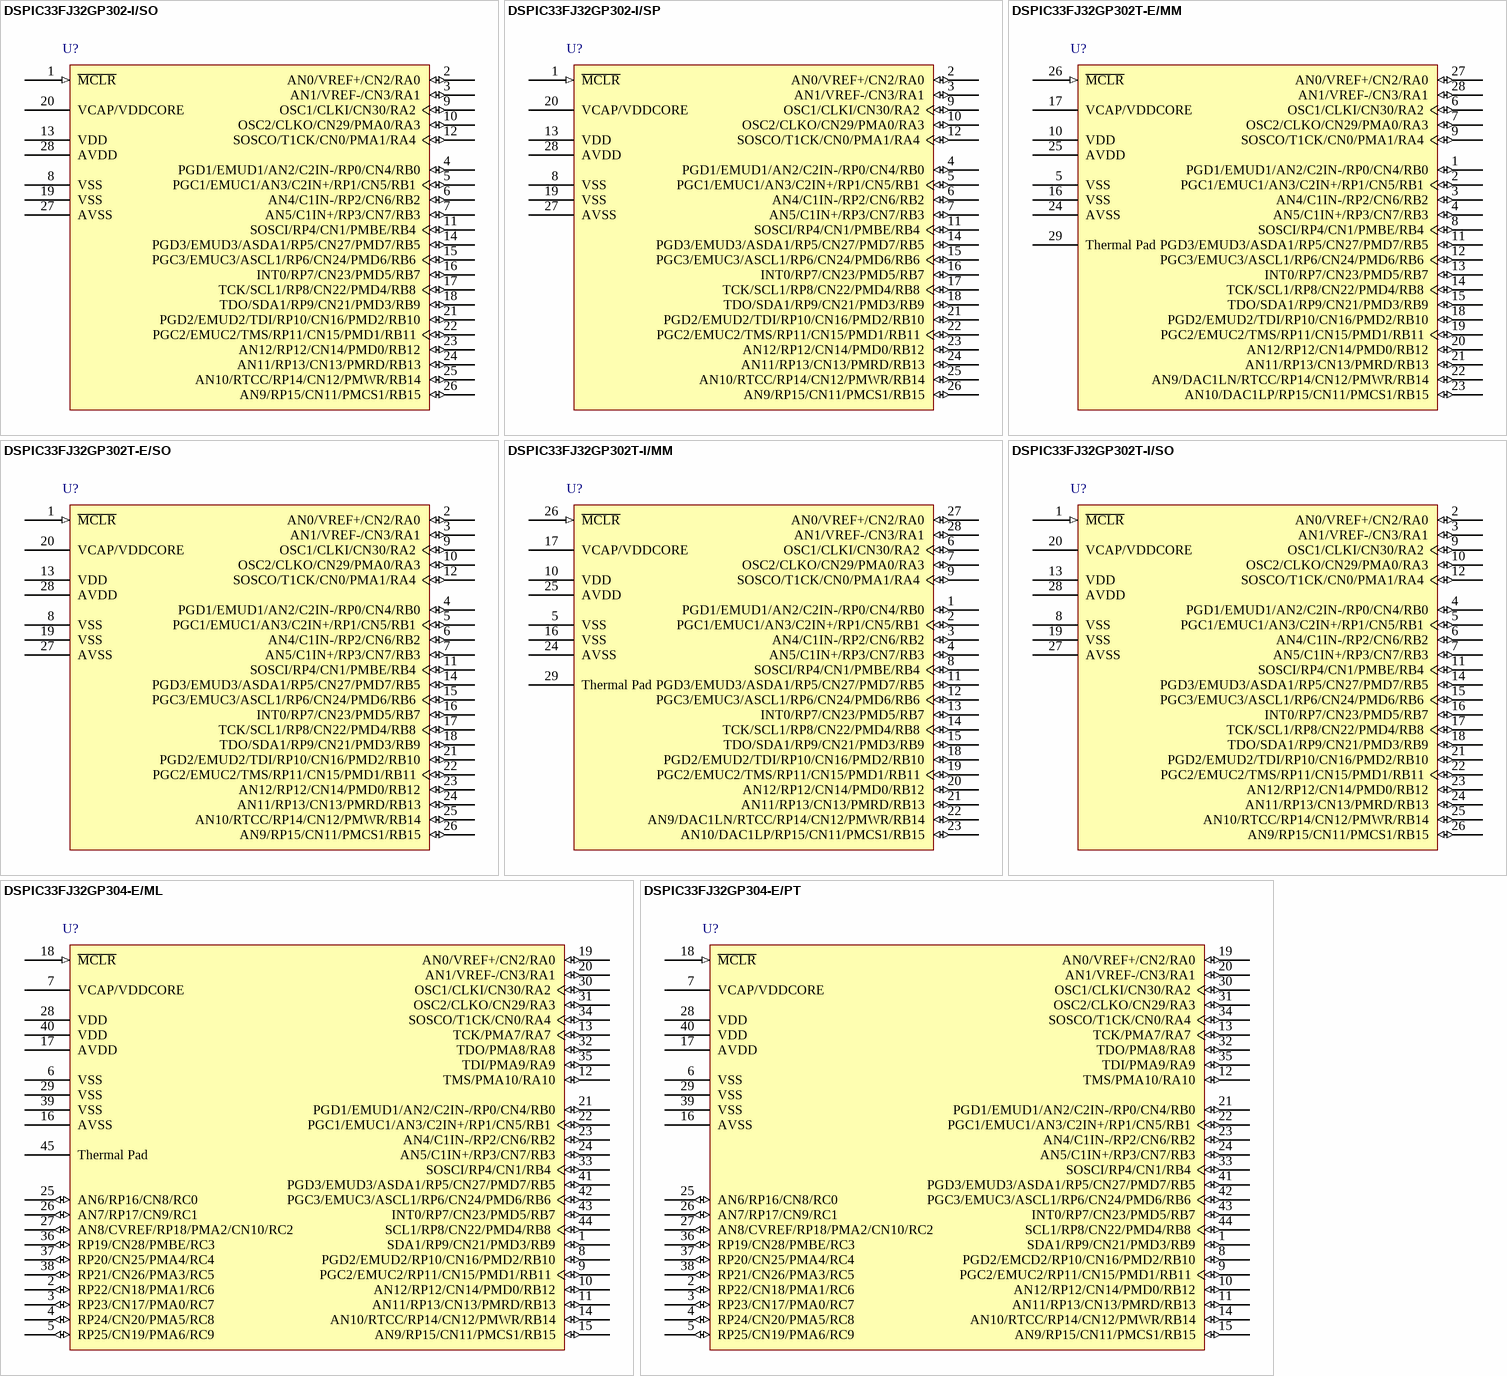
[diagram p17: symbols DSPIC33FJ32GP302-I/SO to DSPIC33FJ32GP304-E/PT]